# Altium schematic symbol library C-Connector.SchLib: 407 symbols (part 1 of 4)
Pins are listed as number, name and electrical type; pins without a type are passive.

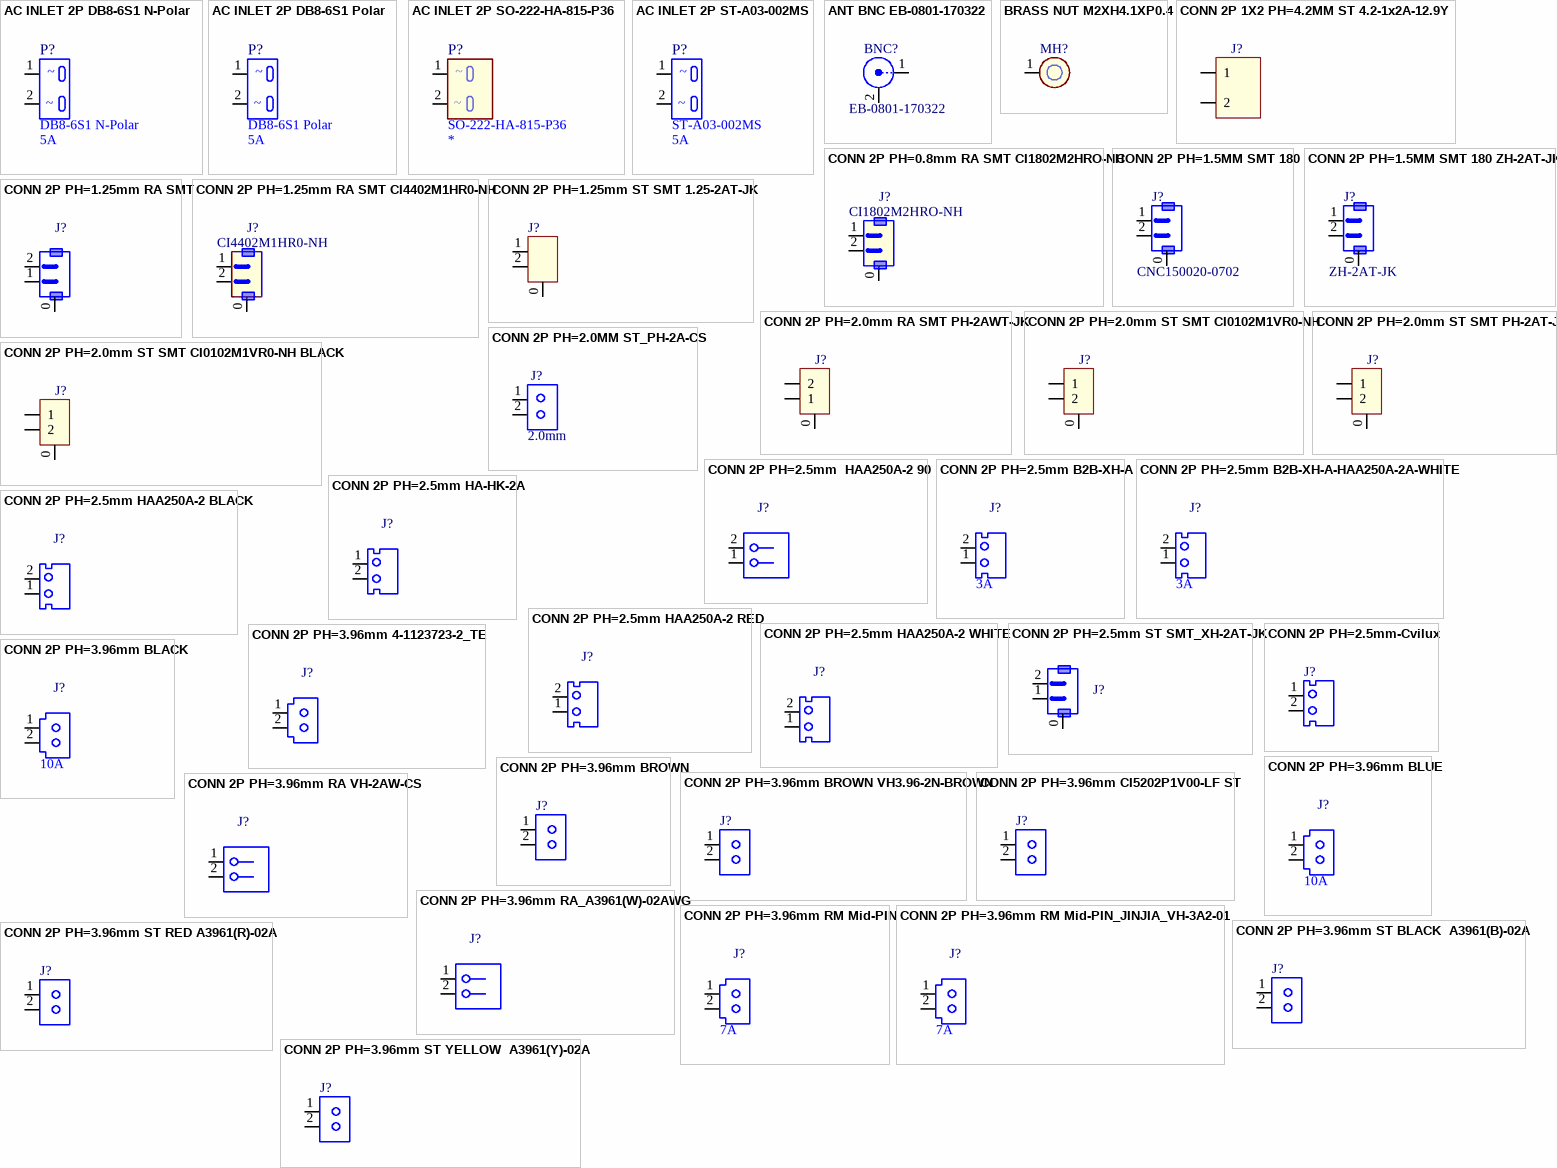
[diagram p0: symbols AC INLET 2P DB8-6S1 N-Polar to CONN 2P PH=3.96mm ST YELLOW  A3961(Y)-02A]

## AC INLET 2P DB8-6S1 N-Polar
designator P?, comment MFG Part: DB8-6S1 N-Polar  Current: 5A  (hidden comment: CJP012009-0050)
AC SOCKET 2P D2.36 2.5A 250V VDE BLACK; SAP: T690300011500; MFG: 金明浩; Vendor Name: 深圳市金明浩电子科技有限公司; Vendor Code: 10010007; DIP&SMD: DIP; Value: *; Type: Connector
footprint AC INLET 2P DB8-6S1 (AC SOCKET 2P D2.36 2.5A 250V VDE BLACK)
footprint Bat connector
footprint Motor connector
pins: 1, 2
2 alternate drawings of the same symbol
text: ~

## AC INLET 2P DB8-6S1 Polar
designator P?, comment MFG Part: DB8-6S1 Polar  Current: 5A  (hidden comment: CJP012009-0070)
AC SOCKET 2P D2.36 2.5A 250V VDE BLACK; SAP: T690300011600; MFG: 金明浩; Vendor Name: 深圳市金明浩电子科技有限公司; Vendor Code: 10010007; DIP&SMD: DIP; Value: *; Type: Connector
footprint AC INLET 2P DB8-6S1 (AC SOCKET 2P D2.36 2.5A 250V VDE BLACK)
footprint Motor&Bat connector
pins: 1, 2
2 alternate drawings of the same symbol
text: ~

## AC INLET 2P SO-222-HA-815-P36
designator P?, comment MFG Part: SO-222-HA-815-P36  (hidden comment: T691200006000)
PLUG 250V 2.5A - TECX-UNIONS K; CREATE_NAME: Nathan; DIP&SMD: DIP; SAP: T691200006000; MFG: TECX-UNIONS; Vendor Name: *; Vendor Code: *; Value: *; Type: Connector; CREATE_TIME: 08-Nov-2018; Current: *
footprint AC INLET 2P SO-222-HA-815-P36 (AC INLET SO-222-HA-815-P36)
pins: 1, 2
2 alternate drawings of the same symbol
text: ~

## AC INLET 2P ST-A03-002MS
designator P?, comment MFG Part: ST-A03-002MS  Current: 5A  (hidden comment: CJPA12002-0010)
AC IN SOCKET ST-A03-002MS; SAP: T690300012000; MFG: 金明浩; Vendor Name: 深圳市金明浩电子科技有限公司; Vendor Code: 10010007; DIP&SMD: DIP; Value: *; Type: Connector
footprint AC INLET 2P ST-A03-002MS
pins: 1, 2
2 alternate drawings of the same symbol
text: ~

## ANT BNC EB-0801-170322
designator BNC?  MFG Part: EB-0801-170322  (hidden comment: *)
BNC Connector EB-0801-170322; CREATE_NAME: Nathan; MFG: HAOYU; DIP&SMD: DIP; CREATE_TIME: 03-May-2017; Type: BNC; SAP: *; Customer Specific: N/A
footprint ANT BNC EB-0801-170322 (BNC EB-0801-170322 H23mm)
pins: 1 X, 2 Y

## BRASS NUT M2XH4.1XP0.4
designator MH?, comment T181000001310  (value not drawn)
BRASS NUT M2XH4.1XP0.4 K; CREATE_NAME: Nathan; DIP&SMD: SMD; CREATE_TIME: 02-Aug-2018; MFG: *; MFG Part: BRASS NUT; Type: Connector; SAP: T181000001310
footprint BRASS NUT M2XH4.1XP0.4
pins: 1

## CONN 2P 1X2 PH=4.2MM ST 4.2-1x2A-12.9Y
designator J?, comment T690300141300  (value not drawn)
F HEAD 1*2P P4.2 F\180 4.2-1X2A-12.9Y K; MFG: JIN JIA; CREATE_NAME: Nathan; DIP&SMD: DIP; Current: 9A; SAP: T690300141300; MFG Part: 4.2-1x2A-12.9Y; Type: Connector; CREATE_TIME: 10-May-2018
footprint CONN 2P 1X2 PH=4.2MM 4.2-1x2A-12.9Y (4.2pitch ATX Power Connector 1X2pin)
pins: 1, 2

## CONN 2P PH=0.8mm RA SMT CI1802M2HRO-NH
designator J?, comment MFG Part: CI1802M2HRO-NH  (hidden comment: T690300106500)
CONN 2PIN P0.8 F\180 CI1802M2HRO-NH L; MFG: CVILUX(瀚荃); CREATE_NAME: Nathan; DIP&SMD: SMD; Vendor Code: *; Vendor Name: *; TYPE: Connector; CREATE_TIME: 24-May-2017; SAP: T690300106500
footprint CONN 2P PH=0.8mm RA SMT CI1802M2HRO-NH (0.8mm 2PIN RIGHT ANGLE SMT TYPE HEADER)
pins: 0, 1, 2

## CONN 2P PH=1.5MM SMT 180
designator J?, comment CNC150020-0702
CONNECTOR 2PIN P=1.5mm 90'单排GOLD 1.5T-LT-2A; CREATE_NAME: Tom; SAP: T690300046800; MFG: 金科基; CURRENT: 1.5A; DIP&SMD: SMD; CREATE_TIME: 12-May-2015; MFG Part: *; Vendor Name: *; Vendor code: *; Type: *; Package: *
footprint CONN 2P PH=1.5MM SMT 180 (SMT CONNECTOR 2PIN P=1.5mm 90'单排镀锡)
pins: 0, 1, 2

## CONN 2P PH=1.5MM SMT 180 ZH-2AT-JK
designator J?, comment MFG Part: ZH-2AT-JK  (hidden comment: T690300108700)
CONNECTOR 2PIN 1.5MM SMT 90 K; CREATE_NAME: Nathan; MFG: JINJIA; CURRENT: 1.5A; DIP&SMD: SMD; CREATE_TIME: 12-Sep-2017; SAP: T690300108700; Vendor Name: *; Vendor code: *; Type: *; Package: *
footprint CONN 2P PH=1.5MM SMT 180 ZH-2AT-JK (SMT CONNECTOR 2PIN P=1.5mm 90'单排镀锡)
pins: 0, 1, 2

## CONN 2P PH=1.25mm RA SMT
designator J?, comment CNC125010-0102  (value not drawn)
CHIP CONN. 2P 1.25mm MOLEX1.25 CSHT1251WR; SAP: T690300020700; MFG: 利民丰; CREATE_NAME: Nathan; Current: 1A; DIP&SMD: SMD; Value: 1.25mm; MFG Part: CSHT1251WR; Vendor Name: *; Vendor Code: *; Type: Connector; CREATE_TIME: 22-DEC-2014
footprint CONN 2P PH=1.25mm RA SMT (GP CHIP CONNECTOR 2P PH=1.25mm H3.55mm)
pins: 0, 1, 2

## CONN 2P PH=1.25mm RA SMT CI4402M1HR0-NH
designator J?, comment MFG Part: CI4402M1HR0-NH  (hidden comment: T690300110500)
CONN. 2P 1.25MM CI4402M1HR0-NH G; MFG: CVILUX(瀚荃); CREATE_NAME: Nathan; DIP&SMD: SMD; Vendor Code: *; Vendor Name: *; TYPE: Connector; CREATE_TIME: 22-May-2017; SAP: T690300110500
footprint CONN 2P PH=1.25mm CI4402M1HR0-NH (1.25mm 2PIN RIGHT ANGLE SMT TYPE HEADER)
pins: 0, 1, 2

## CONN 2P PH=1.25mm ST SMT 1.25-2AT-JK
designator J?, comment T690300114700  (value not drawn)
CONN 2PIN P1.25 1.25-2AT-JK K; MFG: JIN JIA; CREATE_NAME: Nathan; Value: 1.25mm; DIP&SMD: SMD; SAP: T690300114700; MFG Part: 1.25-2AT-JK; Vendor Name: *; Vendor code: *; Type: Connector; Package: *; CURRENT: *; CREATE_TIME: 14-Aug-2017
footprint CONN 2P PH=1.25mm ST SMT 1.25-2AT-JK (GP CHIP CONNECTOR 2P PH=1.25mm H4.7mm)
pins: 0, 1, 2

## CONN 2P PH=2.0mm RA SMT PH-2AWT-JK
designator J?, comment T690300140400  (value not drawn)
GP CONNECTOR SMD 2PIN PITCH:2.0MM 9 K; MFG Part: PH-2AWT-JK; Value: 2.0mm; MFG: JINJIA; CREATE_NAME: Nathan; SAP: T690300140400; Vendor Name: *; Vendor Code: *; Type: Connector; Current: *; CREATE_TIME: 25-Apr-2018; DIP&SMD: SMD
footprint CONN 2P PH=2.0mm RA SMT PH-2AWT-JK (Connector 2 PIN PH=2.0mm JINJIA  PH-2AWT-JK)
pins: 0, 1, 2

## CONN 2P PH=2.0mm ST SMT CI0102M1VR0-NH
designator J?, comment CNC200011-0502  (value not drawn)
CHIP CONNECTOR 2P P:2.0MM 90 NICKEL K; MFG Part: CI0102M1VR0-NH; SAP: T690300019900; MFG: Cvilux; Value: 2.0mm; CREATE_NAME: Tom@Deftroincs; DIP&SMD: SMD; Vendor Name: *; Vendor Code: *; Tolerance: *; Type: Connector; CREATE_TIME: 22-Mar-2014
footprint CONN 2P PH=2.0mm ST SMT (CONN 2P PH=2.0mm  ST SMT)
pins: 0, 1, 2

## CONN 2P PH=2.0mm ST SMT CI0102M1VR0-NH BLACK
designator J?, comment T690300085700  (value not drawn)
CONN 2.0MM BLACK 2P SMD G; MFG Part: PH-LT-2A(BK); MFG: 金瑞康; CREATE_NAME: Tom; SAP: T690300085700; Vendor Name: *; Vendor Code: *; Value: 2.0mm; Tolerance: *; Type: Connector; CREATE_TIME: 15-Mar-2018; DIP&SMD: SMD
footprint CONN 2P PH=2.0mm ST SMT (CONN 2P PH=2.0mm  ST SMT)
pins: 0, 1, 2

## CONN 2P PH=2.0mm ST SMT PH-2AT-JK
designator J?, comment T690300109100  (value not drawn)
CONNECTOR 2P P:2.0MM 90° SMT K; MFG Part: PH-2AT-JK; MFG: JINJIA; Value: 2.0mm; CREATE_NAME: Nathan; DIP&SMD: SMD; SAP: T690300109100; Vendor Name: *; Vendor Code: *; Tolerance: *; Type: Connector; CREATE_TIME: 11-Sep-2017
footprint CONN 2P PH=2.0mm ST SMT PH-2AT-JK (CONN 2P PH=2.0mm  ST SMT)
pins: 0, 1, 2

## CONN 2P PH=2.0MM ST_PH-2A-CS
designator J?, comment value 2.0mm  (hidden comment: T690300132000)
CONN 2P P2 M\90 PH-2A-CS K; MFG: 金佳; CREATE_NAME: Nathan; DIP&SMD: DIP; SAP: T690300132000; Vendor Name: *; Vendor Code: *; CREATE_TIME: 07-Feb-2018; MFG Part: PH-2A-CS; Type: Connector; Current: *
footprint CONN 2P PH=2.0MM ST_PH-2A-CS (PH WAFER 2P PH=2.0mm H6.2mm)
pins: 1, 2

## CONN 2P PH=2.5mm  HAA250A-2 90
designator J?, comment CCN250020-0502  (value not drawn)
CONNECTOR 2P P=2.5mm White 90' No Tail; MFG Part: HAA250A-2AWD; Value: 5.75; SAP: T690300003100; MFG: 金基科; CREATE_NAME: Evan; DIP&SMD: DIP; Vendor Name: *; Vendor Code: *; Type: Connector; CREATE_TIME: 16-Jul-2014
footprint CONN 2P PH=2.5mm  HAA250A-2 90
pins: 1, 2

## CONN 2P PH=2.5mm B2B-XH-A
designator J?, comment Current: 3A  (hidden comment: CCN250000-0102)
GP CONNECTOR B2B-XH-A 2 PIN G; MFG Part: HAA250A-2A-WHITE; Value: 2.5mm; SAP: T690300041200; MFG: 金瑞康; Vendor Name: 亿源电子有限公司; Vendor Code: 10009989; DIP&SMD: DIP; Type: Connector
footprint CONN 2P PH=2.5mm B2B-XH-A (CONN 2P PH=2.5mm B2B-XH-A H7mm)
pins: 1, 2

## CONN 2P PH=2.5mm B2B-XH-A-HAA250A-2A-WHITE
designator J?, comment Current: 3A  (hidden comment: CCN250000-0102)
GP CONNECTOR B2B-XH-A 2 PIN G; MFG Part: HAA250A-2A-WHITE; Value: 2.5mm; SAP: T690300072400; MFG: 金瑞康; CREATE_NAME: Tom; DIP&SMD: DIP; Vendor Name: *; Vendor Code: *; Type: Connector; CREATE_TIME: 29-Feb-2016
footprint CONN 2P PH=2.5mm B2B-XH-A (CONN 2P PH=2.5mm B2B-XH-A H7mm)
pins: 1, 2

## CONN 2P PH=2.5mm HA-HK-2A
designator J?, comment CCN250001-0102  (value not drawn)
CONNECTOR HA2.5 2PIN WHITE G; MFG Part: HA-HK-2A; Value: 2.5mm; SAP: T690300024000; MFG: 建威; Vendor Name: 深圳市利民丰电子有限公司; Vendor Code: 10020373; Current: 3A; DIP&SMD: DIP; Type: Connector
footprint CONN 2P PH=2.5mm HA-HK-2A (CONN 2P PH=2.5mm HA-HK-2A H7.2mm)
pins: 1, 2

## CONN 2P PH=2.5mm HAA250A-2 BLACK
designator J?, comment T690300125300  (value not drawn)
CONNECTOR HA2.5 2PIN BLACK K; MFG Part: HAA250A-2 BLACK; Value: 2.5mm; MFG: 金瑞康; CREATE_NAME: Nathan; Current: 3A; DIP&SMD: DIP; SAP: T690300125300; Vendor Name: *; Vendor Code: *; Type: Connector; CREATE_TIME: 24-Nov-2017
footprint CONN 2P PH=2.5mm HAA250A-2 WHITE
pins: 1, 2

## CONN 2P PH=2.5mm HAA250A-2 RED
designator J?, comment CCN250002-0102  (value not drawn)
CONNECTOR HA2.5 2PIN RED G; MFG Part: HAA250A-2 RED; Value: 2.5mm; SAP: T690300024700; MFG: 金瑞康; CREATE_NAME: Nathan; Current: 3A; DIP&SMD: DIP; Vendor Name: *; Vendor Code: *; Type: Connector; CREATE_TIME: 15-June-2016
footprint CONN 2P PH=2.5mm HAA250A-2 RED
pins: 1, 2

## CONN 2P PH=2.5mm HAA250A-2 WHITE
designator J?, comment T690300048100  (value not drawn)
CONNECTOR 2PIN 2.5 WHITE G; MFG Part: HAA250A-2; Value: 2.5mm; MFG: 金瑞康; CREATE_NAME: Nathan; Current: 3A; DIP&SMD: DIP; SAP: T690300048100; Vendor Name: *; Vendor Code: *; Type: Connector; CREATE_TIME: 24-Nov-2017
footprint CONN 2P PH=2.5mm HAA250A-2 WHITE
pins: 1, 2

## CONN 2P PH=2.5mm ST SMT_XH-2AT-JK
designator J?, comment T690300165300  (value not drawn)
CONNECTOR 2PIN P:2.54 90 H:7.8 K; MFG Part: XH-2AT-JK; Value: 2.5mm; MFG: 金佳; CREATE_NAME: Nathan; DIP&SMD: SMD; SAP: T690300165300; Vendor Name: *; Vendor Code: *; Type: Connector; CREATE_TIME: 12-Apr-2019; Current: *; Customer Specific: N/A
footprint CONN 2P PH=2.5MM SMT ST XH-2AT-JK (CONN 2P PH=2.5MM SMT XH-2AT-JK)
pins: 0, 1, 2

## CONN 2P PH=2.5mm-Cvilux
designator J?, comment T690300058400  (value not drawn)
WTB CONN. 2.5MM 2PIN CI2202P1VK0-NH CV G; MFG: CVILUX; CREATE_NAME: Tom; DIP&SMD: DIP; Value: 2.5mm; SAP: T690300058400; MFG Part: CI2202P1VK0-NH; Vendor Name: *; Vendor Code: *; Type: Connector; CREATE_TIME: 25-Feb-2016; Current: *
footprint CONN 2P PH=2.5mm B2B-XH-A (CONN 2P PH=2.5mm B2B-XH-A H7mm)
pins: 1, 2

## CONN 2P PH=3.96mm 4-1123723-2_TE
designator J?, comment T690300165500  (value not drawn)
CONN 2P P3.96 M\180 4-1123723-2 L; Value: 3.96mm; DIP&SMD: DIP; CREATE_NAME: Nathan; SAP: T690300165500; MFG: *; MFG Part: *; Vendor Name: *; Vendor Code: *; Type: Connector; CREATE_TIME: 15-APR-2019; Current: *
footprint CONN 2P PH=3.96mm_4-1123723-2_TE (CONN 2P P3.96 M\180)
pins: 1, 2

## CONN 2P PH=3.96mm BLACK
designator J?, comment Current: 10A  (hidden comment: CCN396030-0102)
CONNECTOR 2PIN P:3.96 LEOCO 3951 BLACK G; Value: 3.96mm; SAP: T690300025000; MFG: JIN RUI KANG; DIP&SMD: DIP; MFG Part: *; Vendor Name: *; Vendor Code: *; Type: Connector
footprint CONN 2P PH=3.96mm BLACK (CONN 2P PH=3.96mm  BLACK H10.9mm)
pins: 1, 2

## CONN 2P PH=3.96mm BLUE
designator J?, comment Current: 10A  (hidden comment: CCN396040-0102)
CONNECTOR 2PIN P:3.96 LEOCO 3951 BLUE G; Value: 3.96mm; SAP: T690300025100; MFG: JIN RUI KANG; DIP&SMD: DIP; MFG Part: *; Vendor Name: *; Vendor Code: *; Type: Connector
footprint CONN 2P PH=3.96mm BLUE (CONN 2P PH=3.96mm  BLUE H10.9mm)
pins: 1, 2

## CONN 2P PH=3.96mm BROWN
designator J?, comment T690300103200  (value not drawn)
CONNECTOR 2 PIN LEOCO 3951 BROWN K; MFG Part: HAA396A-2Y-BRO; MFG: JINRUIKANG; CREATE_NAME: Tom; DIP&SMD: DIP; SAP: T690300103200; Vendor Name: *; Vendor Code: *; Type: Connector; CREATE_TIME: 04-May-2018
footprint CONN 2P PH=3.96mm BROWN (CONN 2P PH=3.96mm  H10.9mm)
pins: 1, 2

## CONN 2P PH=3.96mm BROWN VH3.96-2N-BROWN
designator J?, comment T690300158300  (value not drawn)
CONN 2PIN P3.96 M\180 VH3.96-2N-BROWN K; MFG: 利民豐; CREATE_NAME: Nathan; DIP&SMD: DIP; SAP: T690300158300; Vendor Name: *; Vendor Code: *; Type: Connector; CREATE_TIME: 12-Dec-2018; MFG Part: VH3.96-2N-BROWN
footprint CONN 2P PH=3.96mm BROWN VH3.96-2N-BROWN (CONN 2P PH=3.96mm  BROWN H10.9mm)
pins: 1, 2

## CONN 2P PH=3.96mm CI5202P1V00-LF ST
designator J?, comment T690300066900  (value not drawn)
2P 3.96MM DIP CI5202P1V00-LF K; MFG: 瀚荃; CREATE_NAME: Nathan; SAP: T690300066900; Vendor Name: *; Vendor Code: *; Type: Connector; CREATE_TIME: 03-Mar-2017; MFG Part: CI5202P1V00-LF; DIP&SMD: DIP
footprint CONN 2P PH=3.96MM CI5202P1V00-LF ST
pins: 1, 2

## CONN 2P PH=3.96mm RA VH-2AW-CS
designator J?, comment T690300164200  (value not drawn)
CONN 2P P3.96 M90 WHITE K; MFG Part: VH-2AW-CS; Value: 3.96mm; MFG: JIN JIA; CREATE_NAME: Cherry; DIP&SMD: DIP; SAP: T690300164200; CREATE_TIME: 2019-04-09; Type: Connector; Current: *
footprint CONN 2P PH=3.96mm_VH-2AW-CS (VH-2AW-CS)
pins: 1, 2

## CONN 2P PH=3.96mm RA_A3961(W)-02AWG
designator J?, comment T690300145800  (value not drawn)
CONN 2P P3.96 M\90 A3961(W)-02AWG (W) K; Value: 3.96mm; MFG: JIATAICHEN; CREATE_NAME: Tom; DIP&SMD: DIP; SAP: T690300145800; MFG Part: A3961(W)-02AWG; CREATE_TIME: 02-Jul-2018; Type: Connector; Current: *
footprint CONN 2P PH=3.96mm RA_A3961(W)-02AWG (A3961(W)-02AWG)
pins: 1, 2

## CONN 2P PH=3.96mm RM Mid-PIN
designator J?, comment Current: 7A  (hidden comment: CCN396021-0102)
CONNECTOR 2 PIN P=3.96 WHITE REMOVED PIN; Value: 3.96mm; SAP: T690300030800; Vendor Name: 亿源电子有限公司; Vendor Code: 10009989; DIP&SMD: DIP; MFG: *; MFG Part: *; Type: Connector
footprint CONN 2P PH=3.96mm RM Mid-PIN (CONN 3P PH=3.96mm  REMOVE Mid-PIN and to be 2P H10.9mm)
pins: 1, 2

## CONN 2P PH=3.96mm RM Mid-PIN_JINJIA_VH-3A2-01
designator J?, comment Current: 7A  (hidden comment: T690300109500)
CONNECTOR 2PIN 3.96MM DIP 180 K; CREATE_NAME: Nathan; Value: 3.96mm; SAP: T690300109500; MFG: *; MFG Part: *; Vendor Name: *; Vendor Code: *; Type: Connector; CREATE_TIME: 12-Sep-2017; DIP&SMD: DIP
footprint CONN 2P PH=3.96mm RM Mid-PIN_JINJIA_VH-3A2-01 (CONN 3P PH=3.96mm  REMOVE Mid-PIN and to be 2P H10.9mm)
pins: 1, 2

## CONN 2P PH=3.96mm ST BLACK  A3961(B)-02A
designator J?, comment T690300126400  (value not drawn)
CONN 2P P3.96 M\90 A3961(B)-02A (B) L; MFG: 佳泰臣; CREATE_NAME: Nathan; DIP&SMD: DIP; SAP: T690300126400; Vendor Name: *; Vendor Code: *; Type: Connector; CREATE_TIME: 28-Nov-2017; MFG Part: A3961(B)-02A
footprint CONN 2P PH=3.96MM BLACK A3961(B)-02A (CONN 2P P3.96 M\90 BLACK)
pins: 1, 2

## CONN 2P PH=3.96mm ST RED A3961(R)-02A
designator J?, comment T690300126600  (value not drawn)
CONN 2P P3.96 M\90 A3961(R)-02A (R) L; MFG: 佳泰臣; CREATE_NAME: Nathan; DIP&SMD: DIP; SAP: T690300126600; Vendor Name: *; Vendor Code: *; Type: Connector; CREATE_TIME: 28-Nov-2017; MFG Part: A3961(R)-02A
footprint CONN 2P PH=3.96MM RED A3961(R)-02A (CONN 2P P3.96 M\90 RED)
pins: 1, 2

## CONN 2P PH=3.96mm ST YELLOW  A3961(Y)-02A
designator J?, comment T690300126500  (value not drawn)
CONN 2P P3.96 M\90 A3961(Y)-02A (Y) L; MFG: 佳泰臣; CREATE_NAME: Nathan; DIP&SMD: DIP; SAP: T690300126500; Vendor Name: *; Vendor Code: *; Type: Connector; CREATE_TIME: 28-Nov-2017; MFG Part: A3961(Y)-02A
footprint CONN 2P PH=3.96MM YELLOW A3961(Y)-02A (CONN 2P P3.96 M\90 YELLOW)
pins: 1, 2

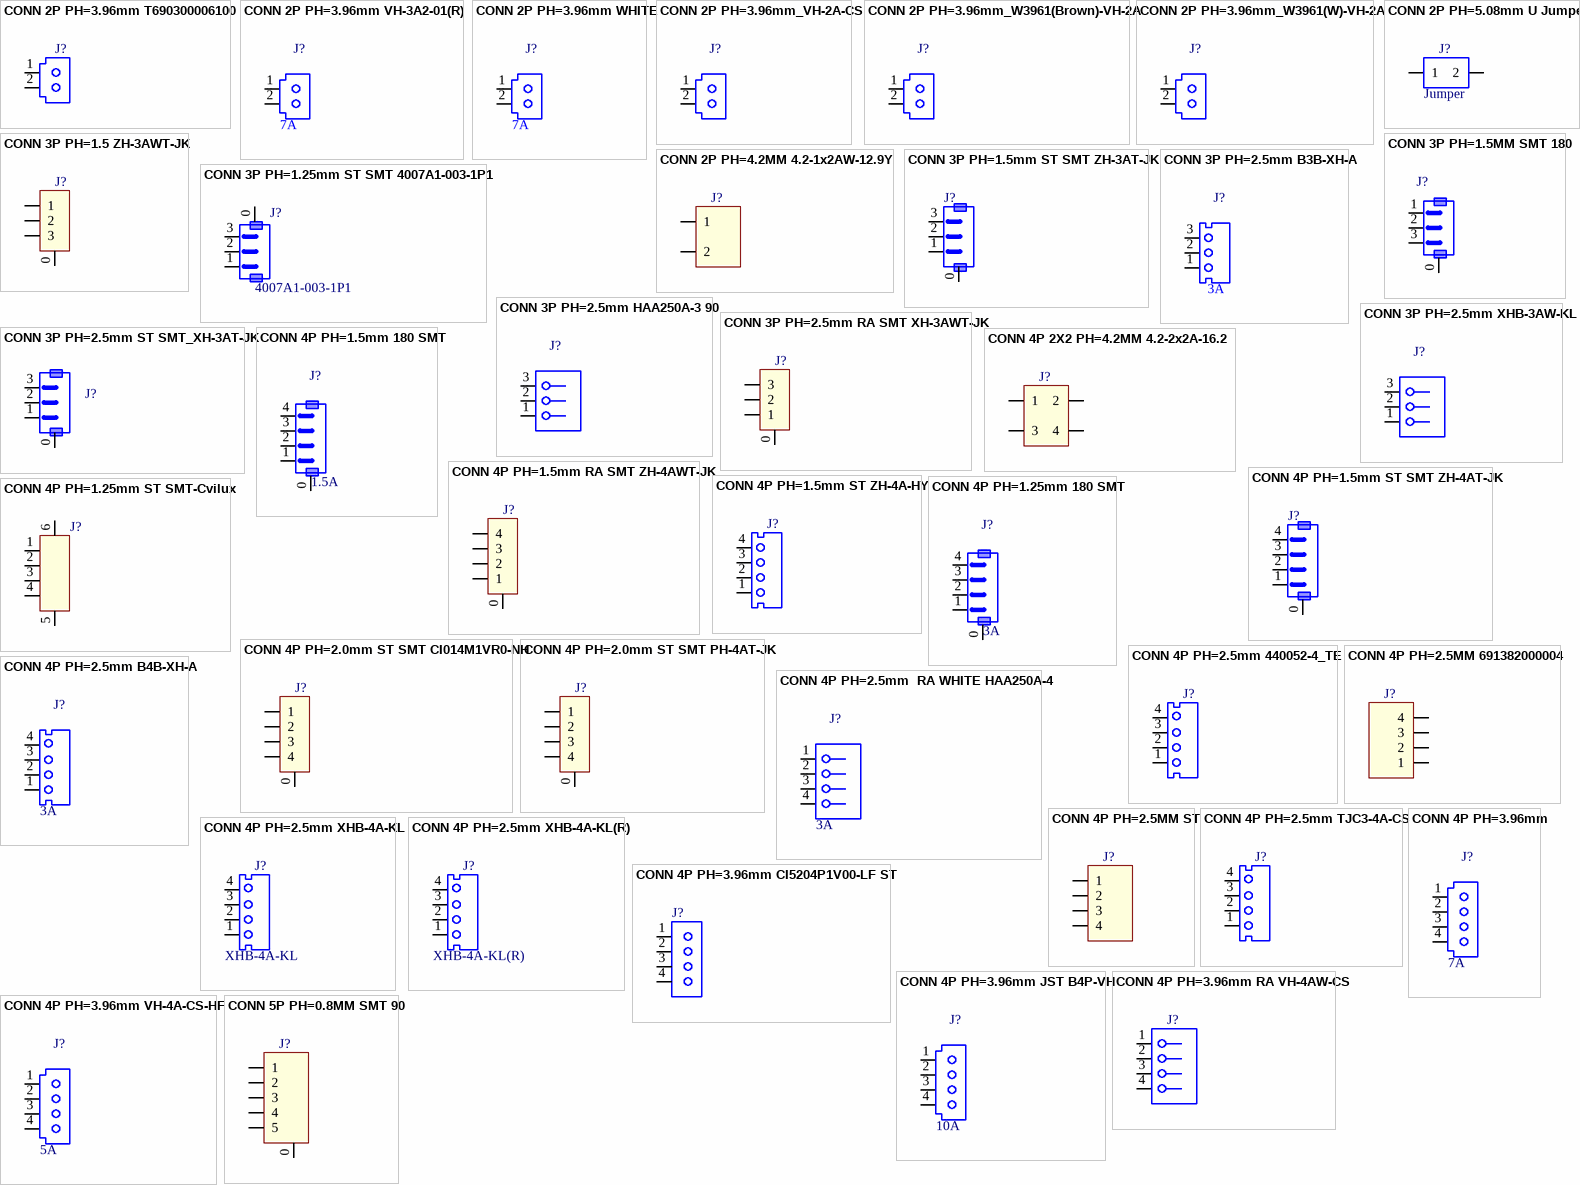
[diagram p1: symbols CONN 2P PH=3.96mm T690300006100 to CONN 5P PH=0.8MM SMT 90]

## CONN 2P PH=3.96mm T690300006100
designator J?, comment T690300006100  (value not drawn)
CONNECTOR 2 PIN PITCH:3.96MM G; MFG Part: 1-1123723; Value: 3.96mm; MFG: TE(TYCO); Vendor Code: **; CREATE_NAME: Tom; DIP&SMD: DIP; SAP: T690300006100; Vendor Name: *; Type: Connector; Current: *; CREATE_TIME: 04-Mar-2016
footprint CONN 2P PH=3.96mm (CONN 2P PH=3.96mm  H10.9mm)
pins: 1, 2

## CONN 2P PH=3.96mm VH-3A2-01(R)
designator J?, comment Current: 7A  (hidden comment: T690300143700)
CONNECTOR 2 PIN P:7.92 VDE\UL K; MFG Part: VH-3A2-01(R); Value: 3.96mm; MFG: JINJIA; CREATE_NAME: Tom; DIP&SMD: DIP; SAP: T690300143700; CREATE_TIME: 06-Jun-2018; Type: Connector
footprint CONN 2P PH=3.96mm RED RM Mid-PIN (CONN 3P PH=3.96mm  REMOVE Mid-PIN and to be 2P H10.9mm)
pins: 1, 2

## CONN 2P PH=3.96mm WHITE
designator J?, comment Current: 7A  (hidden comment: CCN396020-0102)
GP CONNECTOR 2 PIN LEOCO 3951 WHITE; Value: 3.96mm; SAP: T690300030300; Vendor Name: 亿源电子有限公司; Vendor Code: 10009989; DIP&SMD: DIP; MFG: *; MFG Part: *; Type: Connector
footprint CONN 2P PH=3.96mm (CONN 2P PH=3.96mm  H10.9mm)
pins: 1, 2

## CONN 2P PH=3.96mm_VH-2A-CS
designator J?, comment T690300152100  (value not drawn)
2PIN DIP PH3.96MM K; MFG Part: VH-2A-CS; Value: 3.96mm; MFG: JIN JIA; CREATE_NAME: Nathan; SAP: T690300152100; CREATE_TIME: 01-Nov-2018; Type: Connector; DIP&SMD: DIP; Current: *
footprint CONN 2P PH=3.96mm_VH-2A-CS (VH-2A-CS)
pins: 1, 2

## CONN 2P PH=3.96mm_W3961(Brown)-VH-2A
designator J?, comment T690300146400  (value not drawn)
CONN 2P P3.96 M\180 W3961(BROWN)-VH-2A K; Value: 3.96mm; MFG: JIATAICHEN; CREATE_NAME: Nathan; DIP&SMD: DIP; SAP: T690300146400; MFG Part: W3961(Brown)-VH-2A; CREATE_TIME: 09-Jul-2018; Type: Connector; Current: *
footprint CONN 2P PH=3.96mm_W3961(Brown)-VH-2A (W3961(Brown)-VH-2A)
pins: 1, 2

## CONN 2P PH=3.96mm_W3961(W)-VH-2A
designator J?, comment T690300145600  (value not drawn)
CONN 2P P3.96 M\180 W3961(W)-VH-2A (W) K; Value: 3.96mm; MFG: JIATAICHEN; CREATE_NAME: Tom; DIP&SMD: DIP; SAP: T690300145600; MFG Part: W3961(W)-VH-2A; CREATE_TIME: 02-Jul-2018; Type: Connector; Current: *
footprint CONN 2P PH=3.96mm_W3961(W)-VH-2A (W3961(W)-VH-2A)
pins: 1, 2

## CONN 2P PH=4.2MM 4.2-1x2AW-12.9Y
designator J?, comment T690300132300  (value not drawn)
F HEAD 1*2P P4.2 F\90 4.2-1X2AW-12.9Y K; MFG: 金佳; CREATE_NAME: Nathan; DIP&SMD: DIP; Current: 9A; SAP: T690300132300; MFG Part: 4.2-1x2AW-12.9Y; Type: Connector; CREATE_TIME: 07-Feb-2018
footprint CONN 2P PH=4.2MM 4.2-1x2AW-12.9Y (4.2pitch ATX Power Connector 1X2pin)
pins: 1, 2

## CONN 2P PH=5.08mm U Jumper
designator J?, comment Type: Jumper  (hidden comment: T690300143600)
CONNECTOR JUMPER 2PIN P=5.08 DIP K; MFG Part: 1225-1103XNXXU2PINX01; Value: 5.08mm; MFG: 金瑞康; CREATE_NAME: Nathan; Current: 3A; SAP: T690300143600; Vendor Name: *; Vendor Code: *; DIP&SMD: DIP; CREATE_TIME: 05-June-2018
footprint CONN 2P PH=5.08mm U Jumper (U Jumper 5.08mm AP214-3 H8.4mm)
pins: 1, 2

## CONN 3P PH=1.5 ZH-3AWT-JK
designator J?, comment T690300097100  (value not drawn)
SMT CONNECTOR 3 PIN PITCH:1.5MM K; MFG Part: ZH-3AWT-JK; MFG: 金佳; Value: 1.5mm; CREATE_NAME: Tom; DIP&SMD: DIP; SAP: T690300097100; Vendor Name: *; Vendor Code: *; Tolerance: *; Type: Connector; CREATE_TIME: 22-Dec-2016
footprint CONN 3P PH=1.5 ZH-3AWT-JK
pins: 0, 1, 2, 3

## CONN 3P PH=1.5MM SMT 180
designator J?, comment CNC150010-0703  (value not drawn)
CNC150010-0703  SMT CONNECTOR 3PIN P=1.5mm 90'单排镀锡; CREATE_NAME: TOM@Deftronics; SAP: T690300018300; MFG: 金科基; CURRENT: 1.5A; DIP&SMD: SMD; CREATE_TIME: 20-Nov-2013; MFG Part: *; Vendor Name: *; Vendor code: *; Type: *; Package: *
footprint CONN 3P PH=1.5MM SMT 180 (CNC150010-0703  SMT CONNECTOR 3PIN P=1.5mm 90'单排镀锡)
pins: 0, 1, 2, 3

## CONN 3P PH=1.5mm ST SMT ZH-3AT-JK
designator J?, comment T690300163700  (value not drawn)
CONNECTOR 3PIN 1.5MM SMT 90 K; MFG Part: ZH-3AT-JK; MFG: 金佳; CREATE_NAME: Nathan; DIP&SMD: SMD; Value: 1.5mm; SAP: T690300163700; Vendor Name: *; Vendor Code: *; Type: Connector; CREATE_TIME: 27-Mar-2019; Current: *
footprint CONN 3P PH=1.5mm ST SMT ZH-3AT-JK (GP CHIP CONNECTOR 3P PH=1.5mm H5mm)
pins: 0, 1, 2, 3

## CONN 3P PH=1.25mm ST SMT 4007A1-003-1P1
designator J?, comment MFG Part: 4007A1-003-1P1  (hidden comment: T690300107900)
CHIP CONNECTOR 3PIN P:1.25MM 90 G; Value: 1.25mm; MFG: 金瑞康; CREATE_NAME: Nathan; Current: 1A; Voltage: 50V; DIP&SMD: SMD; SAP: T690300107900; Vendor Name: *; Vendor Code: *; Type: Connector; CREATE_TIME: 25-APR-2017
footprint CONN 3P PH=1.25mm ST SMT 4007A1-003-1P1 (GP CHIP CONNECTOR 3P PH=1.25mm H4.78mm)
pins: 0, 1, 2, 3

## CONN 3P PH=2.5mm B3B-XH-A
designator J?, comment Current: 3A  (hidden comment: CCN250000-0103)
GP CONNECTOR B3B-XH-A 3 PIN; Value: 2.5mm; SAP: T690300028900; Vendor Name: 亿源电子有限公司; Vendor Code: 10009989; DIP&SMD: DIP; MFG: *; MFG Part: *; Type: Connector
footprint CONN 3P PH=2.5mm B3B-XH-A (CONN 3P PH=2.5mm B3B-XH-A H7mm)
pins: 1, 2, 3

## CONN 3P PH=2.5mm HAA250A-3 90
designator J?, comment CCN250000-0503  (value not drawn)
CONNECTOR 3PIN P=2.5 White 90'; SAP: T690300023700; MFG: 金科基; CREATE_NAME: TOM@Deftronics; DIP&SMD: DIP; Vendor Name: *; Vendor Code: *; Type: Connector; CREATE_TIME: 16-Apr-2014; MFG Part: *
footprint CONN 3P PH=2.5mm HAA250A-3 90 (CONNECTOR 3PIN P=2.5 White 90')
pins: 1, 2, 3

## CONN 3P PH=2.5mm RA SMT XH-3AWT-JK
designator J?, comment T690300149000  (value not drawn)
3PIN PH2.5 SMT 180 K; MFG Part: XH-3AWT-JK; Value: 2.5mm; MFG: JINJIA; CREATE_NAME: Nathan; DIP&SMD: SMD; SAP: T690300149000; Vendor Name: *; Vendor Code: *; Type: Connector; Current: *; CREATE_TIME: 01-Aug-2018
footprint CONN 3P PH=2.5mm RA SMT XH-3AWT-JK (Connector 3PIN PH=2.5mm JINJIA  XH-3AWT-JK)
pins: 0, 1, 2, 3

## CONN 3P PH=2.5mm ST SMT_XH-3AT-JK
designator J?
SMD 3PIN 2.5MM 180; MFG Part: XH-3AT-JK; MFG: 金佳; CREATE_NAME: Nathan; Value: 2.5mm; SAP: *; Vendor Name: *; Vendor Code: *; Type: Connector; CREATE_TIME: 30-Aug-2018; Current: *; DIP&SMD: SMD; Customer Specific: N/A
footprint CONN 3P PH=2.5MM SMT ST XH-3AT-JK (CONN 3P PH=2.5MM SMT XH-3AT-JK)
pins: 0, 1, 2, 3

## CONN 3P PH=2.5mm XHB-3AW-KL
designator J?, comment T690300112600  (value not drawn)
CONNECTOR 3PIN P:2.5 WHITE 90 NORMAL K; MFG Part: XHB-3AW-KL; MFG: JIN JIA; CREATE_NAME: Nathan; DIP&SMD: DIP; SAP: T690300112600; Vendor Name: *; Vendor Code: *; Type: Connector; CREATE_TIME: 18-July-2017
footprint CONN 3P PH=2.5mm XHB-3AW-KL (CONNECTOR 3PIN P=2.5 White 90')
pins: 1, 2, 3

## CONN 4P 2X2 PH=4.2MM 4.2-2x2A-16.2
designator J?, comment T690300132400  (value not drawn)
F HEAD 2*2P P4.2 F\90 4.2-2X2A-16.2 K; MFG: 金佳; CREATE_NAME: Nathan; DIP&SMD: DIP; Current: 7A; Voltage: 250V; SAP: T690300132400; MFG Part: 4.2-2x2A-16.2; Type: Connector; CREATE_TIME: 07-Feb-2018
footprint CONN 4P 2X2 PH=4.2MM 4.2-2x2A-16.2 (4.2pitch ATX Power Connector 2X2pin)
pins: 1, 2, 3, 4

## CONN 4P PH=1.5mm 180 SMT
designator J?, comment Current: 1.5A  (hidden comment: CNC150010-0704)
SMT CONNECTOR 4PIN P=1.5mm 90'单排镀金; Value: 1.5mm; SAP: T690300018400; MFG: 金科基; CREATE_NAME: GordonL@Deftronics; DIP&SMD: SMD; MFG Part: *; Vendor Name: *; Vendor Code: *; Type: Connector; CREATE_TIME: 28-MAR-2013
footprint CONN 4P PH=1.5mm 180 SMT (GP CHIP CONNECTOR 4P PH=1.5mm H5mm)
pins: 0, 1, 2, 3, 4

## CONN 4P PH=1.5mm RA SMT ZH-4AWT-JK
designator J?, comment T690300117300  (value not drawn)
CONNECTOR 4 PIN PH1.5 ZH-4AWT-JK K; Value: 1.5mm; MFG: JINJIA; CREATE_NAME: Nathan; DIP&SMD: SMD; SAP: T690300117300; MFG Part: ZH-4AWT-JK; Vendor Name: *; Vendor Code: *; Type: Connector; Current: *; CREATE_TIME: 29-Aug-2017
footprint CONN 4P PH=1.5mm RA SMT ZH-4AWT-JK (Connector 4 PIN PH=1.5mm JINJIA  ZH-4AWT-JK)
pins: 0, 1, 2, 3, 4

## CONN 4P PH=1.5mm ST SMT ZH-4AT-JK
designator J?, comment T690300155600  (value not drawn)
CHIP CONNECTOR 4PIN P:1.5MM 90; MFG Part: ZH-4AT-JK; Value: 1.5mm; MFG: 金佳; CREATE_NAME: Nathan; DIP&SMD: SMD; SAP: T690300155600; Vendor Name: *; Vendor Code: *; Type: Connector; CREATE_TIME: 21-Nov-2018; Current: *
footprint CONN 4P PH=1.5mm ST SMT ZH-4AT-JK (GP CHIP CONNECTOR 5P PH=1.5mm H5mm)
pins: 0, 1, 2, 3, 4

## CONN 4P PH=1.5mm ST ZH-4A-HY
designator J?, comment T690300117200  (value not drawn)
CONNECTOR 4 PIN PH1.5 180 ZH-4A-HY K; Value: 1.5mm; MFG: JINJIA; CREATE_NAME: Nathan; DIP&SMD: DIP; SAP: T690300117200; MFG Part: ZH-4A-HY; Vendor Name: *; Vendor Code: *; Type: Connector; Current: *; CREATE_TIME: 29-Aug-2017
footprint CONN 4P PH=1.5mm ST ZH-4A-HY (CONN ZH 4P PH=1.5mm 180 H4.5mm)
pins: 1, 2, 3, 4

## CONN 4P PH=1.25mm 180 SMT
designator J?, comment Current: 3A  (hidden comment: CNC125010-0504)
CHIP  CONNECTOR 4P P=1.25mm 90' 单排镀镍; Value: 1.25mm; SAP: T690300017500; MFG: 利民丰; CREATE_NAME: GordonL@Deftronics; DIP&SMD: SMD; MFG Part: *; Vendor Name: *; Vendor Code: *; Type: Connector; CREATE_TIME: 01-APR-2013
footprint CONN 4P PH=1.25mm 180 SMT (GP CHIP CONNECTOR 4P PH=1.25mm H5.4mm)
pins: 0, 1, 2, 3, 4

## CONN 4P PH=1.25mm ST SMT-Cvilux
designator J?, comment T690300062400  (value not drawn)
CON\CI4404M_1.25MM_VL G; MFG Part: CI4404M1VR0-NH; MFG: Cvilux; Value: 1.25mm; CREATE_NAME: Tom; DIP&SMD: SMD; SAP: T690300062400; Vendor Name: *; Vendor Code: *; Tolerance: *; Type: Connector; CREATE_TIME: 25-Feb-2016
footprint CONN 4P PH=1.25mm ST SMT-Cvilux
pins: 1, 2, 3, 4, 5, 6

## CONN 4P PH=2.0mm ST SMT CI014M1VR0-NH
designator J?, comment T690300076200  (value not drawn)
CONNECTOR 4PIN P:2.0MM 90 CVILUX G; MFG Part: CI014M1VR0-NH; Value: 2.0mm; CREATE_NAME: Tom; DIP&SMD: SMD; SAP: T690300076200; Vendor Name: *; Vendor Code: *; MFG: Cvilux; Tolerance: *; Type: Connector; CREATE_TIME: 21-Apr-2016
footprint CONN 4P PH=2.0mm ST SMT
pins: 0, 1, 2, 3, 4

## CONN 4P PH=2.0mm ST SMT PH-4AT-JK
designator J?, comment T690300116500  (value not drawn)
CONN 4PIN P:2.0MM 90 SMT PH-4AT-JK K; MFG: JINJIA; Value: 2.0mm; CREATE_NAME: Nathan; DIP&SMD: SMD; SAP: T690300116500; Vendor Name: *; Vendor Code: *; MFG Part: PH-4AT-JK; Tolerance: *; Type: Connector; CREATE_TIME: 01-Apr-2019
footprint CONN 4P PH=2.0mm ST SMT PH-4AT-JK (CONN 4P PH=2.0mm  ST SMT)
pins: 0, 1, 2, 3, 4

## CONN 4P PH=2.5mm 440052-4_TE
designator J?, comment T690300164400  (value not drawn)
GP CONNECTOR B4B-XH-A 4 PIN; MFG Part: 440052-4; Value: 2.5mm; MFG: TE; DIP&SMD: DIP; CREATE_NAME: Nathan; SAP: T690300164400; Vendor Name: *; Vendor Code: *; Type: Connector; CREATE_TIME: 10-APR-2019; Current: *
footprint CONN 4P PH=2.5mm 440052-4
pins: 1, 2, 3, 4

## CONN 4P PH=2.5MM 691382000004
designator J?, comment T690300100100  (value not drawn)
CONNECTOR M\180 12\8.1\13.6MM 4PIN L; MFG Part: 691382000004; MFG: WE; CREATE_NAME: Tom; Value: 2.5mm; Current: 0.5A; DIP&SMD: DIP; Vendor Code: *; Vendor Name: *; TYPE: Connector; CREATE_TIME: 23-Dec-2016; SAP: T690300100100
footprint CONN 4P PH=2.5MM 691382000004
pins: 1, 2, 3, 4

## CONN 4P PH=2.5mm  RA WHITE HAA250A-4
designator J?, comment Current: 3A  (hidden comment: CCN250010-0504)
CONN. 4P P=2.5mm 90' HAA250A-4 RA WHITE; MFG Part: HAA250A-4 WHITE; Value: 2.5mm; SAP: T690300038000; MFG: 金科基; DIP&SMD: DIP; Vendor Name: *; Vendor Code: *; Type: Connector
footprint CONN 4P PH=2.5mm RA WHITE HAA250A-4 (CONN 4P PH=2.5mm HAA250A-4 H5.8mm WHITE Color)
pins: 1, 2, 3, 4

## CONN 4P PH=2.5mm B4B-XH-A
designator J?, comment Current: 3A  (hidden comment: CCN250000-0104)
GP CONNECTOR B4B-XH-A 4 PIN; Value: 2.5mm; SAP: T690300029000; Vendor Name: 亿源电子有限公司; Vendor Code: 10009989; DIP&SMD: DIP; MFG: *; MFG Part: *; Type: Connector
footprint CONN 4P PH=2.5mm B4B-XH-A (CONN 4P PH=2.5mm B4B-XH-A H7mm)
pins: 1, 2, 3, 4

## CONN 4P PH=2.5MM ST
designator J?, comment T690300097200  (value not drawn)
CONNECTOR TJC3-4A-CS 4 PIN G; Value: 2.5mm; MFG: 金佳电子; CREATE_NAME: Tom; DIP&SMD: DIP; SAP: T690300097200; MFG Part: TJC3-4A-CS; Vendor Name: *; Vendor Code: *; Type: Connector; Current: *; CREATE_TIME: 27-Dec-2016
footprint CONN 4P PH=2.5MM ST
pins: 1, 2, 3, 4

## CONN 4P PH=2.5mm TJC3-4A-CS
designator J?, comment T690300097200  (value not drawn)
CONNECTOR TJC3-4A-CS 4 PIN G; Value: 2.5mm; MFG: JIN JIA; CREATE_NAME: Nathan; DIP&SMD: DIP; SAP: T690300097200; MFG Part: TJC3-4A-CS; Vendor Name: *; Vendor Code: *; Type: Connector; Current: *; CREATE_TIME: 18-July-2017
footprint CONN 4P PH=2.5mm B4B-XH-A (CONN 4P PH=2.5mm B4B-XH-A H7mm)
pins: 1, 2, 3, 4

## CONN 4P PH=2.5mm XHB-4A-KL
designator J?, comment MFG Part: XHB-4A-KL  (hidden comment: T690300127400)
CONNECTOR 4PIN P 2.54MM 180° K; Value: 2.5mm; MFG: 金佳; CREATE_NAME: Nathan; DIP&SMD: DIP; SAP: T690300127400; Vendor Name: *; Vendor Code: *; Type: Connector; CREATE_TIME: 14-DEC-2017; Current: *
footprint CONN 4P PH=2.5mm XHB-4A-KL (CONN 4P PH=2.5mm XHB-4A-KL H7.2mm)
pins: 1, 2, 3, 4

## CONN 4P PH=2.5mm XHB-4A-KL(R)
designator J?, comment MFG Part: XHB-4A-KL(R)  (hidden comment: T690300147000)
CONNECTOR 4PIN P 2.54MM 180° K; Value: 2.5mm; MFG: 金佳; CREATE_NAME: Nathan; DIP&SMD: DIP; SAP: T690300147000; Vendor Name: *; Vendor Code: *; Type: Connector; CREATE_TIME: 11-July-2018; Current: *
footprint CONN 4P PH=2.5mm XHB-4A-KL(R) (CONN 4P PH=2.5mm XHB-4A-KL(R) H7.2mm)
pins: 1, 2, 3, 4

## CONN 4P PH=3.96mm
designator J?, comment Current: 7A  (hidden comment: CCN396020-0104)
CONNECTOR 4 PIN 3.96mm WHITE; SAP: T690300030500; Vendor Name: 亿源电子有限公司; Vendor Code: 10009989; DIP&SMD: DIP; Value: 3.96mm; MFG: *; MFG Part: *; Type: Connector
footprint CONN 4P PH=3.96mm (CONN 4P PH=3.96mm  H10.9mm)
pins: 1, 2, 3, 4

## CONN 4P PH=3.96mm CI5204P1V00-LF ST
designator J?, comment T690300067500  (value not drawn)
4P 3.96MM DIP CI5204P1V00-LF K; MFG: 瀚荃; CREATE_NAME: Nathan; SAP: T690300067500; Vendor Name: *; Vendor Code: *; Type: Connector; CREATE_TIME: 03-Mar-2017; MFG Part: CI5204P1V00-LF; DIP&SMD: DIP
footprint CONN 4P PH=3.96MM CI5204P1V00-LF ST
pins: 1, 2, 3, 4

## CONN 4P PH=3.96mm JST B4P-VH
designator J?, comment Current: 10A  (hidden comment: T690300102400)
4 PIN 3.96mm G; MFG Part: B4P-VH(LF)(SN); MFG: JST; CREATE_NAME: Nathan; DIP&SMD: DIP; Value: 3.96mm; SAP: T690300102400; Vendor Name: *; Vendor Code: *; Type: Connector; CREATE_TIME: 08-Feb-2017
footprint CONN 4P PH=3.96mm JST B4P-VH (CONN 4P PH=3.96mm  H14.6mm)
pins: 1, 2, 3, 4

## CONN 4P PH=3.96mm RA VH-4AW-CS
designator J?, comment T690300164300  (value not drawn)
CONN 4P P3.96 M90 WHITE K; MFG Part: VH-4AW-CS; Value: 3.96mm; MFG: JINJIA; CREATE_NAME: Cherry; DIP&SMD: DIP; SAP: T690300164300; Vendor Name: *; Vendor Code: *; Type: Connector; CREATE_TIME: 2019-04-10; Current: *
footprint CONN 4P PH=3.96mm_VH-4AW-CS (VH-4AW-CS)
pins: 1, 2, 3, 4

## CONN 4P PH=3.96mm VH-4A-CS-HF
designator J?, comment Current: 5A  (hidden comment: T690300129900)
CONN POWER 4PIN 3.96MM FM180 L; MFG Part: VH-4A-CS-HF; MFG: JST; CREATE_NAME: Nathan; DIP&SMD: DIP; Value: 3.96mm; SAP: T690300129900; Vendor Name: *; Vendor Code: *; Type: Connector; CREATE_TIME: 01-Nov-2018
footprint CONN 4P PH=3.96mm_VH-4A-CS-HF (VH-4A-CS-HF)
pins: 1, 2, 3, 4

## CONN 5P PH=0.8MM SMT 90
designator J?, comment T690300144900  (value not drawn)
CONN 5PIN P0.8 M\90 CI1805M2HR0-NH L; Value: 2.5mm; MFG: CviLux; CREATE_NAME: Tom; DIP&SMD: SMD; SAP: T690300144900; MFG Part: CI1805M2HR0-NH; Vendor Name: *; Vendor Code: *; Type: Connector; Current: *; CREATE_TIME: 22-Jun-2018
footprint CONN 5P PH=0.8MM SMT 90
pins: 0, 1, 2, 3, 4, 5

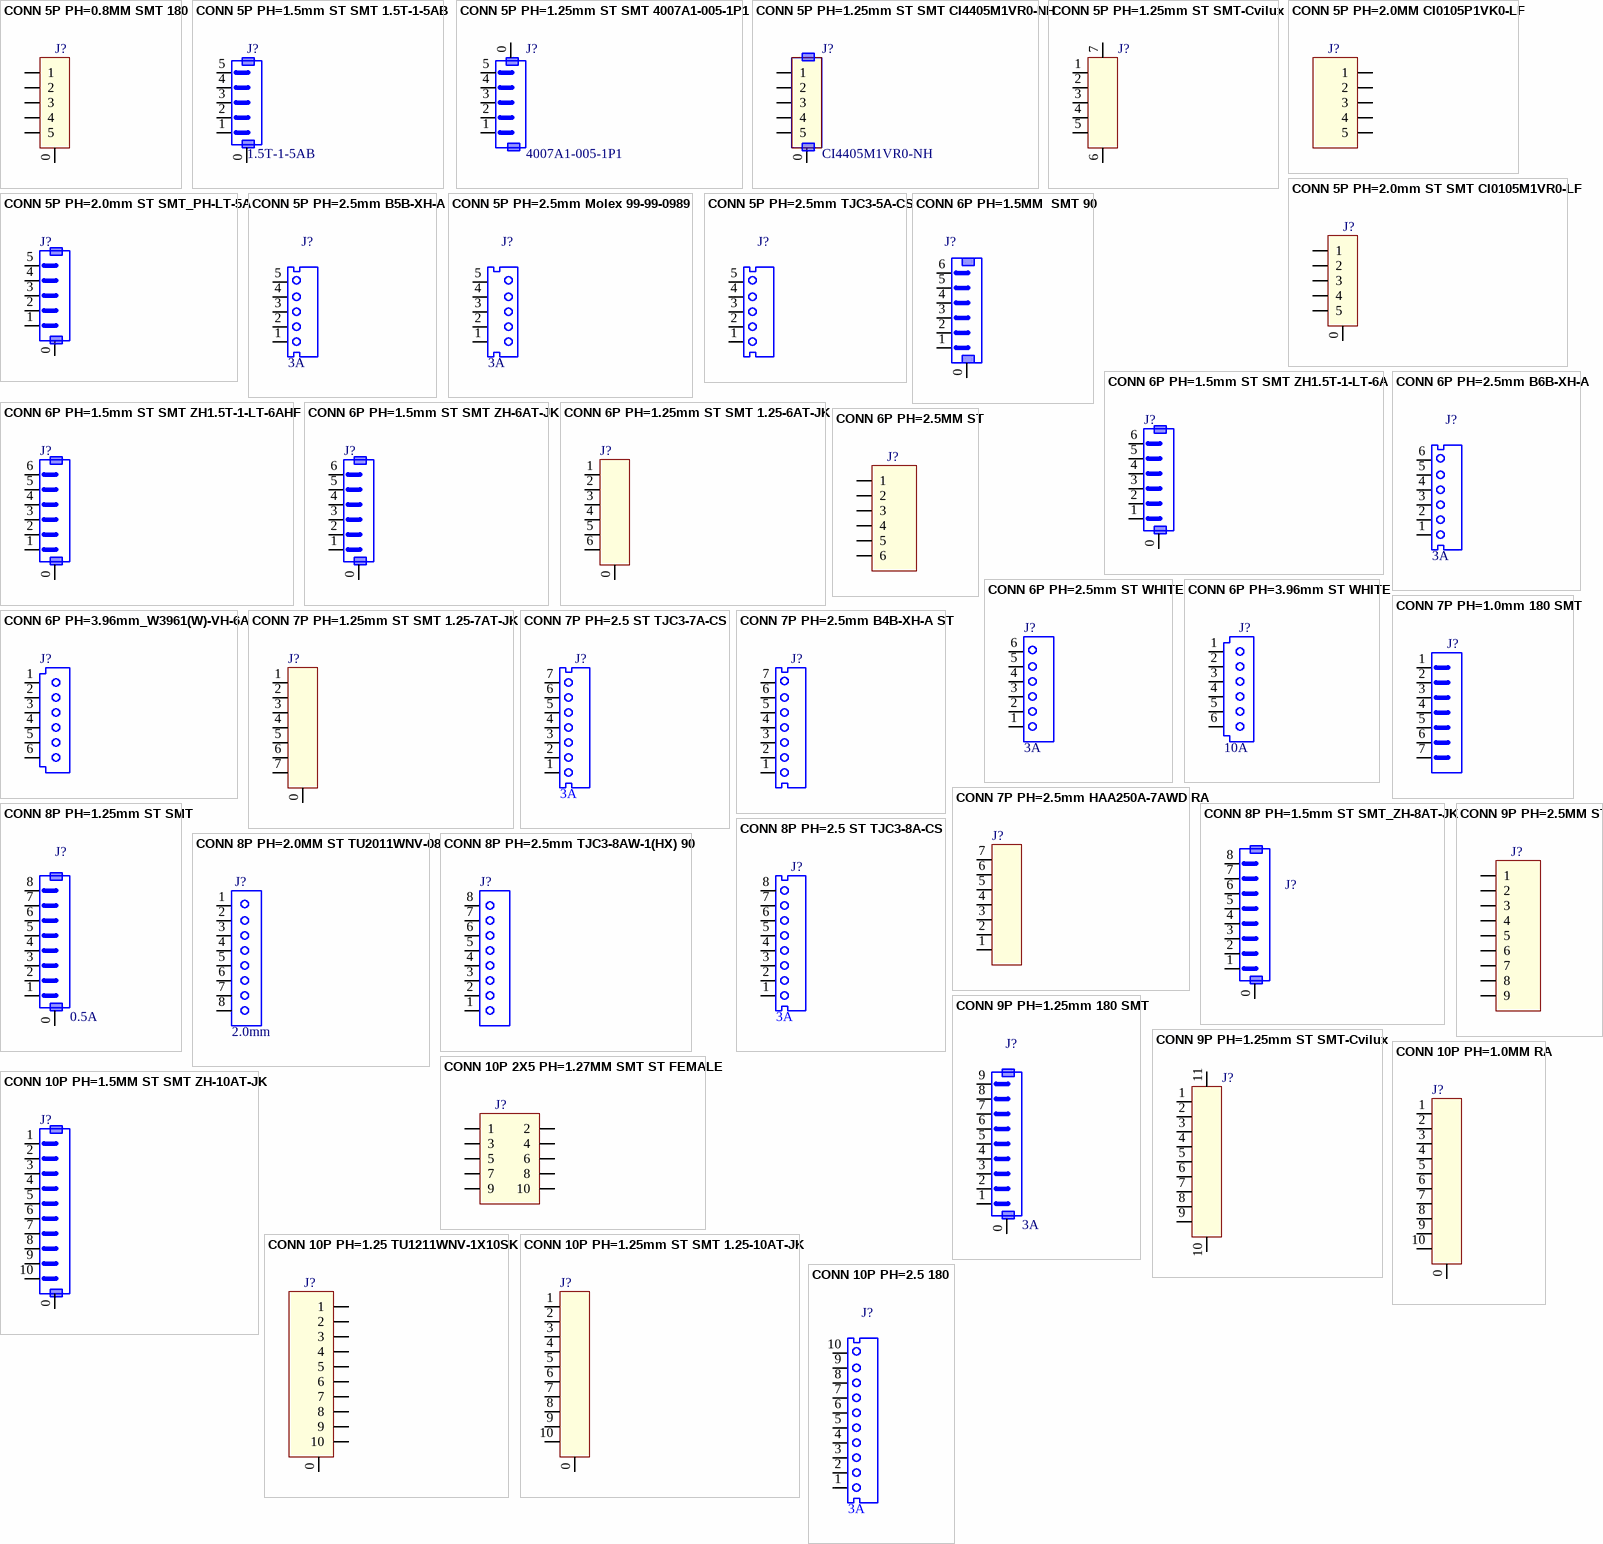
[diagram p2: symbols CONN 5P PH=0.8MM SMT 180 to CONN 10P PH=2.5 180]

## CONN 5P PH=0.8MM SMT 180
designator J?, comment T690300145000  (value not drawn)
CONN 5PIN P0.8 M\90 CI1805M2VR0-NH L; Value: 2.5mm; MFG: CviLux; CREATE_NAME: Tom; DIP&SMD: SMD; SAP: T690300145000; MFG Part: CI1805M2VR0-NH; Vendor Name: *; Vendor Code: *; Type: Connector; Current: *; CREATE_TIME: 22-Jun-2018
footprint CONN 5P PH=0.8MM SMT 180
pins: 0, 1, 2, 3, 4, 5

## CONN 5P PH=1.5mm ST SMT 1.5T-1-5AB
designator J?, comment MFG Part: 1.5T-1-5AB  (hidden comment: CNC150010-0705)
CHIP CONNECTOR 5PIN P:1.5MM 90 K; Value: 1.5mm; SAP: T690300018500; MFG: 金瑞康; CREATE_NAME: Tom@Deftronics; Current: 1.5A; DIP&SMD: SMD; Vendor Name: *; Vendor Code: *; Type: Connector; CREATE_TIME: 09-APR-2013
footprint CONN 5P PH=1.5mm ST SMT 1.5T-1-5AB (GP CHIP CONNECTOR 5P PH=1.5mm H5mm)
pins: 0, 1, 2, 3, 4, 5

## CONN 5P PH=1.25mm ST SMT 4007A1-005-1P1
designator J?, comment MFG Part: 4007A1-005-1P1  (hidden comment: T690300108000)
CHIP CONNECTOR 5PIN P:1.25MM 90 G; Value: 1.25mm; MFG: 金瑞康; CREATE_NAME: Nathan; Current: 1A; Voltage: 50V; DIP&SMD: SMD; SAP: T690300108000; Vendor Name: *; Vendor Code: *; Type: Connector; CREATE_TIME: 25-APR-2017
footprint CONN 5P PH=1.25mm ST SMT 4007A1-005-1P1 (GP CHIP CONNECTOR 5P PH=1.25mm H4.78mm)
pins: 0, 1, 2, 3, 4, 5

## CONN 5P PH=1.25mm ST SMT CI4405M1VR0-NH
designator J?, comment MFG Part: CI4405M1VR0-NH  (hidden comment: T690300060600)
CON\CI4405M_1.25MM_VL G; MFG: CviLux; CREATE_NAME: Nathan; DIP&SMD: SMD; Vendor Code: *; Vendor Name: *; TYPE: Connector; CREATE_TIME: 29-Aug-2017; SAP: T690300060600
footprint CONN 5P PH=1.25mm CI4405M1VR0-NH (1.25mm 5PIN STRAIGHT SMT TYPE HEADER)
pins: 0, 1, 2, 3, 4, 5

## CONN 5P PH=1.25mm ST SMT-Cvilux
designator J?, comment T690300060600  (value not drawn)
CON\CI4405M_1.25MM_VL G; MFG Part: CI4405M1VR0-NH; MFG: 瀚荃; Value: 1.25mm; CREATE_NAME: Tom; DIP&SMD: SMD; SAP: T690300060600; Vendor Name: *; Vendor Code: *; Tolerance: *; Type: Connector; CREATE_TIME: 25-Feb-2016
footprint CONN 5P PH=1.25mm ST SMT-Cvilux
pins: 1, 2, 3, 4, 5, 6, 7

## CONN 5P PH=2.0MM CI0105P1VK0-LF
designator J?, comment T690300106600  (value not drawn)
CONN 5PIN P2.0 M\90 CI0105P1VK0-LF K; MFG: CviLUX; CREATE_NAME: Tom; Value: 2.0mm; DIP&SMD: DIP; SAP: T690300106600; MFG Part: CI0105P1VK0-LF; Type: Connector; CREATE_TIME: 27-Dec-2016
footprint CONN 5P PH=2.0MM CI0105P1VK0-LF
pins: 1, 2, 3, 4, 5

## CONN 5P PH=2.0mm ST SMT CI0105M1VR0-LF
designator J?, comment T690300111100  (value not drawn)
CONNECTOR 5PIN P:2.0MM 90 CVILUX G; MFG Part: CI0105M1VR0-LF; Value: 2.0mm; CREATE_NAME: Nathan; DIP&SMD: SMD; SAP: T690300111100; Vendor Name: *; Vendor Code: *; MFG: Cvilux; Tolerance: *; Type: Connector; CREATE_TIME: 02-June-2017
footprint CONN 5P PH=2.0mm ST SMT CI0105M1VR0-LF (CONN 5P PH=2.0mm ST SMT)
pins: 0, 1, 2, 3, 4, 5

## CONN 5P PH=2.0mm ST SMT_PH-LT-5A
designator J?, comment T690300140800  (value not drawn)
CONNECTOR 5P 2MM SMD90 PH-LT-5A K; Value: 2.0mm; MFG: JRConn; CREATE_NAME: Nathan; DIP&SMD: SMD; SAP: T690300140800; MFG Part: PH-LT-5A; Vendor Name: *; Vendor Code: *; Type: Connector; CREATE_TIME: 26-APR-2018; Current: *; Customer Specific: N/A
footprint CONN 5P PH=2.0mm ST SMT_PH-LT-5A
pins: 0, 1, 2, 3, 4, 5

## CONN 5P PH=2.5mm B5B-XH-A
designator J?, comment Current: 3A  (hidden comment: CCN250000-0105)
CONNECTOR B5B-XH-A 5 PIN; Value: 2.5mm; SAP: T690300029100; Vendor Name: 深圳市利民丰电子有限公司; Vendor Code: 10020373; DIP&SMD: DIP; MFG: *; MFG Part: *; Type: Connector
footprint CONN 5P PH=2.5mm B5B-XH-A (CONN 5P PH=2.5mm B5B-XH-A H7mm)
pins: 1, 2, 3, 4, 5

## CONN 5P PH=2.5mm Molex 99-99-0989
designator J?, comment Current: 3A  (hidden comment: CCN250001-0105)
CONNECTOR 5PIN P=2.5mm 180'; Value: 2.5mm; SAP: T690300024200; MFG: Molex; CREATE_NAME: Nathan; DIP&SMD: DIP; MFG Part: 99-99-0989; Vendor Name: *; Vendor Code: *; Type: Connector; CREATE_TIME: 10-Feb-2015
footprint CONN 5P PH=2.5mm Molex 99-99-0989
pins: 1, 2, 3, 4, 5

## CONN 5P PH=2.5mm TJC3-5A-CS
designator J?, comment T690300112400  (value not drawn)
CONNECTOR 5PIN P:2.5MM WHITE M180 K; MFG Part: TJC3-5A-CS; Value: 2.5mm; MFG: JIN JIA; CREATE_NAME: Nathan; DIP&SMD: DIP; SAP: T690300112400; Vendor Name: *; Vendor Code: *; Type: Connector; Current: *; CREATE_TIME: 18-July-2017
footprint CONN 5P PH=2.5mm TJC3-5A-CS
pins: 1, 2, 3, 4, 5

## CONN 6P PH=1.5MM  SMT 90
designator J?, comment CNC150010-0106  (value not drawn)
CNC150010-0106  CHIP CONNECTOR 6PIN P=1.5mm 180'单排镀镍; CREATE_NAME: TOM@Deftronics; SAP: T690300018000; MFG: 金科基; DIP&SMD: SMD; CREATE_TIME: 10-Nov-2013; MFG Part: *; Vendor Name: *; Vendor code: *; Type: *; Package: *; CURRENT: *
footprint CONN 6P PH=1.5MM  SMT 90 (CHIP CONNECTOR 6PIN P=1.5mm 180'单排镀镍)
pins: 0, 1, 2, 3, 4, 5, 6

## CONN 6P PH=1.5mm ST SMT ZH1.5T-1-LT-6A
designator J?, comment T690300081500  (value not drawn)
CHIP CONNECTOR 6P P:1.5MM 90  BRASS K; MFG Part: ZH1.5T-1-LT-6A; Value: 1.5mm; MFG: JRC; CREATE_NAME: Nathan; DIP&SMD: SMD; SAP: T690300081500; Vendor Name: *; Vendor Code: *; Type: Connector; CREATE_TIME: 26-Mar-2021; Current: *
footprint CONN 6P PH=1.5mm ST SMT ZH1.5T-1-LT-6A (GP CHIP CONNECTOR 6P PH=1.5mm H5mm)
pins: 0, 1, 2, 3, 4, 5, 6

## CONN 6P PH=1.5mm ST SMT ZH1.5T-1-LT-6AHF
designator J?, comment T690300136700  (value not drawn)
CONNECTOR 6PIN 1.5MM M90 JRC L; MFG Part: ZH1.5T-1-LT-6AHF; CREATE_NAME: Nathan; DIP&SMD: SMD; Value: 1.5mm; SAP: T690300136700; MFG: JRC; Vendor Name: *; Vendor Code: *; Type: Connector; CREATE_TIME: 28-Mar-2018; Current: *
footprint CONN 6P PH=1.5mm ST SMT ZH1.5T-1-LT-6AHF (GP CHIP CONNECTOR 6P PH=1.5mm H5mm)
pins: 0, 1, 2, 3, 4, 5, 6

## CONN 6P PH=1.5mm ST SMT ZH-6AT-JK
designator J?, comment T690300087900  (value not drawn)
CHIP CONNECTOR 6PIN P:1.5MM 90 G; MFG Part: ZH-6AT-JK; Value: 1.5mm; MFG: 金佳; CREATE_NAME: Nathan; DIP&SMD: SMD; SAP: T690300087900; Vendor Name: *; Vendor Code: *; Type: Connector; CREATE_TIME: 20-OCT-2016; Current: *
footprint CONN 6P PH=1.5mm ST SMT ZH-6AT-JK (GP CHIP CONNECTOR 6P PH=1.5mm H5mm)
pins: 0, 1, 2, 3, 4, 5, 6

## CONN 6P PH=1.25mm ST SMT 1.25-6AT-JK
designator J?, comment T690300152200  (value not drawn)
CONN 6PIN P1.25 1.25-6AT-JK K; MFG: JIN JIA; CREATE_NAME: Nathan; Value: 1.25mm; DIP&SMD: SMD; SAP: T690300152200; MFG Part: 1.25-6AT-JK; Vendor Name: *; Vendor code: *; Type: Connector; Package: *; CURRENT: *; CREATE_TIME: 13-Sep-2018
footprint CONN 6P PH=1.25mm ST SMT 1.25-6AT-JK (GP CHIP CONNECTOR 6P PH=1.25mm H4.7mm)
pins: 0, 1, 2, 3, 4, 5, 6

## CONN 6P PH=2.5mm B6B-XH-A
designator J?, comment Current: 3A  (hidden comment: CCN250000-0106)
GP CONNECTOR B6B-XH-A 6 PIN; Value: 2.5mm; SAP: T690300041300; Vendor Name: 亿源电子有限公司; Vendor Code: 10009989; DIP&SMD: DIP; MFG: *; MFG Part: *; Type: Connector
footprint CONN 6P PH=2.5mm B6B-XH-A (CONN 6P PH=2.5mm B6B-XH-A H7mm)
pins: 1, 2, 3, 4, 5, 6

## CONN 6P PH=2.5MM ST
designator J?, comment T690300097400  (value not drawn)
CONNECTOR TJC3-6A-CS 6 PIN G; Value: 2.5mm; MFG: 金佳电子; CREATE_NAME: Tom; DIP&SMD: DIP; SAP: T690300097400; MFG Part: TJC3-6A-CS; Vendor Name: *; Vendor Code: *; Type: Connector; Current: *; CREATE_TIME: 27-Dec-2016
footprint CONN 6P PH=2.5MM ST
pins: 1, 2, 3, 4, 5, 6

## CONN 6P PH=2.5mm ST WHITE
designator J?, comment Current: 3A  (hidden comment: T690300053800)
CONNECTOR 6 PIN PITCH:2.50MM 180 WHITE G; Value: 2.5mm; MFG: 金科基; CREATE_NAME: Tom; DIP&SMD: DIP; SAP: T690300053800; MFG Part: *; Vendor Name: *; Vendor Code: *; Type: Connector; CREATE_TIME: 29-Oct-2015
footprint CONN 6P PH=2.5mm ST WHITE
pins: 1, 2, 3, 4, 5, 6

## CONN 6P PH=3.96mm ST WHITE
designator J?, comment Current: 10A  (hidden comment: T690300049700)
CONNECTOR 6 PIN PITCH:3.96MM 180 white G; MFG Part: HAY396A-6Y; Value: 3.96mm; MFG: 金科基; CREATE_NAME: Nathan; DIP&SMD: DIP; SAP: T690300049700; Vendor Name: *; Vendor Code: *; CREATE_TIME: 23-July-2015; Type: Connector
footprint CONN 6P PH=3.96mm ST WHITE (CONN 6P PH=3.96mm  H10.1mm)
pins: 1, 2, 3, 4, 5, 6

## CONN 6P PH=3.96mm_W3961(W)-VH-6A
designator J?, comment T690300145700  (value not drawn)
CONN 6P P3.96 M\180 W3961(W)-VH-6A (W) K; Value: 3.96mm; MFG: JIATAICHEN; CREATE_NAME: Tom; DIP&SMD: DIP; SAP: T690300145700; MFG Part: W3961(W)-VH-6A; CREATE_TIME: 02-Jul-2018; Type: Connector; Current: *
footprint CONN 6P PH=3.96mm_W3961(W)-VH-6A (W3961(W)-VH-6A)
pins: 1, 2, 3, 4, 5, 6

## CONN 7P PH=1.0mm 180 SMT
designator J?, comment CNC100010-0507  (value not drawn)
CHIP FPC CONNECTOR 7P P=1.0mm  90'单排镀镍; MFG Part: 1.0T-16-7AB-2; SAP: T690300021100; MFG: 金科基; CREATE_NAME: TOM@Deftronics; DIP&SMD: SMD; Remark: Update the pcb footprint on 05-June-2018; Vendor Name: *; Vendor Code: *; Type: Connector; CREATE_TIME: 15-Aug-2013
footprint CONN 7P PH=1.0mm ST SMT 1.0T-16-7PB-2 (CHIP CONNECTOR 7P P=1.0mm 180'单排镀镍)
pins: 1, 2, 3, 4, 5, 6, 7

## CONN 7P PH=1.25mm ST SMT 1.25-7AT-JK
designator J?, comment T690300127800  (value not drawn)
CHIP CONNECTOR 7PIN P:1.25MM 90 K; MFG Part: 1.25-7AT-JK; MFG: JIN JIA; CREATE_NAME: Nathan; Value: 1.25mm; DIP&SMD: SMD; SAP: T690300127800; Vendor Name: *; Vendor code: *; Type: Connector; Package: *; CURRENT: *; CREATE_TIME: 19-Dec-2017
footprint CONN 7P PH=1.25mm ST SMT 1.25-7AT-JK (GP CHIP CONNECTOR 7P PH=1.25mm H4.7mm)
pins: 0, 1, 2, 3, 4, 5, 6, 7

## CONN 7P PH=2.5 ST TJC3-7A-CS
designator J?, comment Current: 3A  (hidden comment: T690300119900)
CONN 7PIN P2.5 M\90 TJC3-7A-CS K; Value: 2.5mm; MFG: JINJIA; CREATE_NAME: Nathan; DIP&SMD: DIP; SAP: T690300119900; MFG Part: TJC3-7A-CS; Vendor Name: *; Vendor Code: *; Type: Connector; CREATE_TIME: 22-Sep-2017
footprint CONN 7P PH=2.5 ST TJC3-7A-CS (GP CONNECTOR 7PIN P=2.5)
pins: 1, 2, 3, 4, 5, 6, 7

## CONN 7P PH=2.5mm B4B-XH-A ST
designator J?, comment CCN250000-0107  (value not drawn)
GP CONNECTOR B4B-XH-A 7 PIN G; SAP: T690300029200; MFG: 金瑞康; CREATE_NAME: Nathan; DIP&SMD: DIP; Vendor Name: *; Vendor Code: *; Type: Connector; CREATE_TIME: 24-Sep-2014; MFG Part: B4B-XH-A
footprint CONN 7P PH=2.5MM ST WAFER (WAFER 7PIN P=2.5mm 90' 单排)
pins: 1, 2, 3, 4, 5, 6, 7

## CONN 7P PH=2.5mm HAA250A-7AWD RA
designator J?, comment T690300060300  (value not drawn)
CONNECTOR 7PIN P=2.5 WHITE 90 HAA250A- G; MFG Part: HAA250A-7AWD; MFG: RICHER INDUSTRIAL; CREATE_NAME: Tom; DIP&SMD: DIP; SAP: T690300060300; Vendor Name: *; Vendor Code: *; Type: Connector; CREATE_TIME: 03-Mar-2016
footprint CONN 7P PH=2.5mm HAA250A-7AWD RA (CONNECTOR 11PIN P=2.5 White 90')
pins: 1, 2, 3, 4, 5, 6, 7

## CONN 8P PH=1.5mm ST SMT_ZH-8AT-JK
designator J?, comment T690300162000  (value not drawn)
SMT CONNECTOR 8PIN P:1.5MM 90 K; MFG Part: ZH-8AT-JK; Value: 1.5mm; MFG: 金佳; CREATE_NAME: Nathan; DIP&SMD: SMD; SAP: T690300162000; Vendor Name: *; Vendor Code: *; Type: Connector; CREATE_TIME: 14-Nov-2018; Current: *; Customer Specific: N/A
footprint CONN 8P PH=1.5mm ST SMT_ZH-8AT-JK (GP CHIP CONNECTOR 8P PH=1.5mm H5mm)
pins: 0, 1, 2, 3, 4, 5, 6, 7, 8

## CONN 8P PH=1.25mm ST SMT
designator J?, comment value 0.5A  (hidden comment: CNC125010-0508)
CHIP CONNECTOR 8P P=1.25mm 90'单排镀镍; SAP: T690300017600; MFG: 利民丰; CREATE_NAME: Nathan; DIP&SMD: SMD; MFG Part: *; Vendor Name: *; Vendor Code: *; Type: Connector; CREATE_TIME: 26-Sep-2014
footprint CONN 8P PH=1.25mm ST SMT (GP CHIP CONNECTOR 8P PH=1.25mm H5.4mm)
pins: 0, 1, 2, 3, 4, 5, 6, 7, 8

## CONN 8P PH=2.0MM ST TU2011WNV-08
designator J?, comment value 2.0mm  (hidden comment: T690300078200)
CONNECTOR 8P 2.0MM TU2011WNV-08 3A K; MFG: TARNG YU; CREATE_NAME: Nathan; DIP&SMD: DIP; SAP: T690300078200; Vendor Name: *; Vendor Code: *; CREATE_TIME: 18-Jan-2018; MFG Part: TU2011WNV-08; Type: Connector; Current: *
footprint CONN 8P PH=2.0MM ST TU2011WNV-08 (Wire To Board PH2.0mm Vertical DIP Type)
pins: 1, 2, 3, 4, 5, 6, 7, 8

## CONN 8P PH=2.5 ST TJC3-8A-CS
designator J?, comment Current: 3A  (hidden comment: T690300135100)
CONN 8PIN P2.5 M\180 TJC3-8A-CS K; Value: 2.5mm; MFG: JINJIA; CREATE_NAME: Nathan; DIP&SMD: DIP; SAP: T690300135100; MFG Part: TJC3-8A-CS; Vendor Name: *; Vendor Code: *; Type: Connector; CREATE_TIME: 21-Mar-2018
footprint CONN 8P PH=2.5 ST TJC3-8A-CS (GP CONNECTOR 8PIN P=2.5)
pins: 1, 2, 3, 4, 5, 6, 7, 8

## CONN 8P PH=2.5mm TJC3-8AW-1(HX) 90
designator J?, comment T690300070600  (value not drawn)
CONNECTER 8PIN P=2.54MM 90° G; MFG Part: TJC3-8AW; MFG: 金佳; CREATE_NAME: Tom; DIP&SMD: DIP; SAP: T690300070600; Vendor Name: *; Vendor Code: *; Type: Connector; CREATE_TIME: 11-Jan-2016
footprint CONN 8P PH=2.5mm TJC3-8AW-1(HX) 90
pins: 1, 2, 3, 4, 5, 6, 7, 8

## CONN 9P PH=1.25mm 180 SMT
designator J?, comment Current: 3A  (hidden comment: CNC125010-0509)
CHIP CONNECTOR 9P P=1.25mm 90’; Value: 1.25mm; SAP: T690300017700; MFG: 利民丰; CREATE_NAME: GordonL@Deftronics; DIP&SMD: SMD; MFG Part: *; Vendor Name: *; Vendor Code: *; Type: Connector; CREATE_TIME: 27-MAR-2013
footprint CONN 9P PH=1.25mm 180 SMT (GP CHIP CONNECTOR 9P PH=1.25mm H5.4mm)
pins: 0, 1, 2, 3, 4, 5, 6, 7, 8, 9

## CONN 9P PH=1.25mm ST SMT-Cvilux
designator J?, comment T690300057800  (value not drawn)
WTB CONN. 1.25MM 9PIN CI4409M1VR0-NH C L; MFG: Cvilux; CREATE_NAME: Tom; DIP&SMD: SMD; SAP: T690300057800; Vendor Name: *; Vendor Code: *; MFG Part: CI4409M1VR0-NH; Value: 1.25mm; Tolerance: *; Type: Connector; CREATE_TIME: 25-Feb-2016
footprint CONN 9P PH=1.25mm ST SMT-Cvilux
pins: 1, 2, 3, 4, 5, 6, 7, 8, 9, 10, 11

## CONN 9P PH=2.5MM ST
designator J?, comment T690300097700  (value not drawn)
CONNECTOR TJC3-9A-CS 9 PIN G; Value: 2.5mm; MFG: 金佳电子; CREATE_NAME: Tom; DIP&SMD: DIP; SAP: T690300097700; MFG Part: TJC3-9A-CS; Vendor Name: *; Vendor Code: *; Type: Connector; Current: *; CREATE_TIME: 27-Dec-2016
footprint CONN 9P PH=2.5MM ST
pins: 1, 2, 3, 4, 5, 6, 7, 8, 9

## CONN 10P 2X5 PH=1.27MM SMT ST FEMALE
designator J?, comment T690300079600  (value not drawn)
CONN SMT 2*5PIN 1.27Y-2X5SW-3.6 90 G; MFG: 金佳; CREATE_NAME: Tom; DIP&SMD: SMD; SAP: T690300079600; PACKAGE: *; Vendor Name: *; Vendor Code: *; MFG Part: 1.27Y-2X5SW-3.6; Remark: *; Tolerance: *; Type: Connector; CREATE_TIME: 23-May-2016
footprint CONN 10P 2X5 PH=1.27MM Female
pins: 1, 2, 3, 4, 5, 6, 7, 8, 9, 10

## CONN 10P PH=1.0MM RA
designator J?
CONNECTOR 10 PIN PITCH:1.0MM 180 G; MFG Part: 1.0S-4X-10PWT-4; SAP: T690300075200; MFG: 金佳电子; Value: 1mm; CREATE_NAME: Tom; DIP&SMD: SMD; Vendor Name: *; Vendor Code: *; Tolerance: *; Type: Connector; CREATE_TIME: 28-Mar-2016
footprint CONN 10P PH=1.0MM RA
pins: 0, 1, 2, 3, 4, 5, 6, 7, 8, 9, 10

## CONN 10P PH=1.5MM ST SMT ZH-10AT-JK
designator J?, comment T690300109200  (value not drawn)
SMT CONNECTOR 10PIN 1.5MM 90° K; MFG Part: ZH-10AT-JK; CREATE_NAME: Nathan; MFG: JINJIA; CURRENT: 1A; DIP&SMD: SMD; CREATE_TIME: 12-Sep-2017; SAP: T690300109200; Vendor Name: *; Vendor code: *; Type: *; Package: *
footprint CONN 10P PH=1.5mm ST SMT ZH-10AT-JK (CHIP CONNECTOR 10PIN P=1.5mm 90'单排镀锡)
pins: 0, 1, 2, 3, 4, 5, 6, 7, 8, 9, 10

## CONN 10P PH=1.25 TU1211WNV-1X10SK
designator J?, comment T690300108900  (value not drawn)
PA CONN TU1211WNV 10P 1.25 ST SMT G; MFG Part: TU1211WNV-1X10SK-X-X-NL-M-A; MFG: TARNG YU; CREATE_NAME: Nathan; Value: 1.25mm; DIP&SMD: SMD; SAP: T690300108900; Type: Connector; CREATE_TIME: 10-May-2017
footprint CONN 10P PH=1.25 TU1211WNV-1x10SK
pins: 0, 1, 2, 3, 4, 5, 6, 7, 8, 9, 10

## CONN 10P PH=1.25mm ST SMT 1.25-10AT-JK
designator J?, comment T690300112700  (value not drawn)
CONNECTOR 10PIN P:1.25MM SMD WHITE M90 K; MFG Part: 1.25-10AT-JK; MFG: JIN JIA; CREATE_NAME: Nathan; Value: 1.25mm; SAP: T690300112700; Vendor Name: *; Vendor code: *; Type: Connector; Package: *; CURRENT: *; CREATE_TIME: 13-July-2017; DIP&SMD: SMD
footprint CONN 10P PH=1.25mm ST SMT 1.25-10AT-JK (GP CHIP CONNECTOR 10P PH=1.25mm H4.7mm)
pins: 0, 1, 2, 3, 4, 5, 6, 7, 8, 9, 10

## CONN 10P PH=2.5 180
designator J?, comment Current: 3A  (hidden comment: CCN254000-0110)
GP CONNECTOR 10PIN P=2.5; Value: 2.5mm; SAP: T690300003600; MFG: 建威; CREATE_NAME: Kai Ma@Deftronics; DIP&SMD: DIP; MFG Part: *; Vendor Name: *; Vendor Code: *; Type: Connector; CREATE_TIME: 28-Nov-2013
footprint CONN 10P PH=2.5 180 (GP CONNECTOR 10PIN P=2.5)
pins: 1, 2, 3, 4, 5, 6, 7, 8, 9, 10

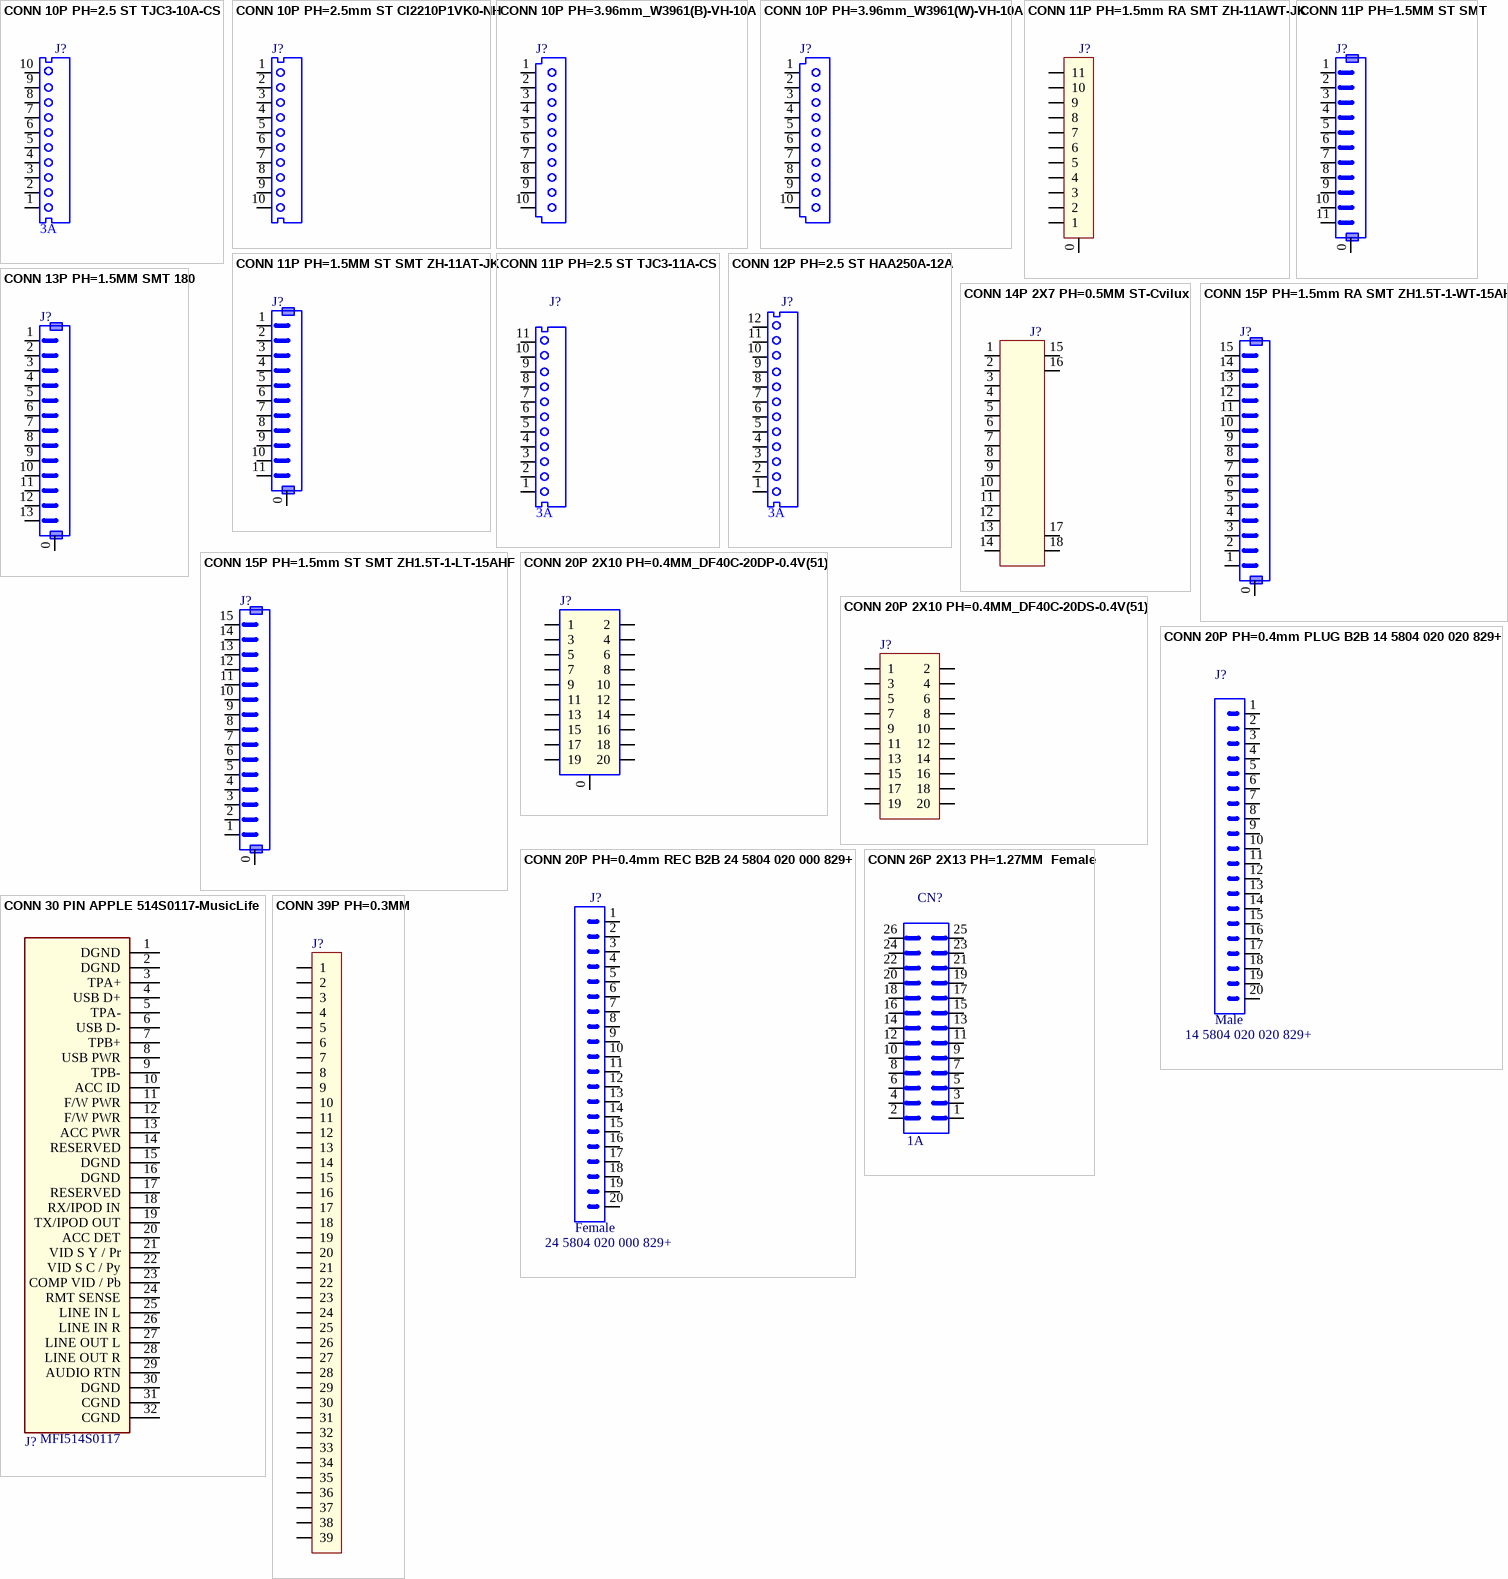
[diagram p3: symbols CONN 10P PH=2.5 ST TJC3-10A-CS to CONN 39P PH=0.3MM]

## CONN 10P PH=2.5 ST TJC3-10A-CS
designator J?, comment Current: 3A  (hidden comment: T690300163300)
CONN 10PIN P2.5 M\180 TJC3-10A-CS K; Value: 2.5mm; MFG: JINJIA; CREATE_NAME: Nathan; DIP&SMD: DIP; SAP: T690300163300; MFG Part: TJC3-10A-CS; Vendor Name: *; Vendor Code: *; Type: Connector; CREATE_TIME: 19-Mar-2019
footprint CONN 10P PH=2.5 ST TJC3-10A-CS (GP CONNECTOR 10PIN P=2.5)
pins: 1, 2, 3, 4, 5, 6, 7, 8, 9, 10

## CONN 10P PH=2.5mm ST CI2210P1VK0-NH
designator J?, comment T690300105400  (value not drawn)
WTB CONN. 2.5MM 10PIN CI2210P1VK0-NH CV G; MFG: CVILUX; CREATE_NAME: Nathan; DIP&SMD: DIP; Value: 2.5mm; SAP: T690300105400; MFG Part: CI2210P1VK0-NH; Vendor Name: *; Vendor Code: *; Type: Connector; CREATE_TIME: 21-Mar-2017; Current: *
footprint CONN 10P PH=2.5mm ST CI2210P1VK0-NH (CONN 10P PH=2.5mm CI2210P1VK0-NH H7mm)
pins: 1, 2, 3, 4, 5, 6, 7, 8, 9, 10

## CONN 10P PH=3.96mm_W3961(B)-VH-10A
designator J?, comment T690300151400  (value not drawn)
CONN 10P P3.96 M\180 W3961(B)-VH-10A ( K; Value: 3.96mm; MFG: JIATAICHEN; CREATE_NAME: Nathan; DIP&SMD: DIP; SAP: T690300151400; MFG Part: W3961(B)-VH-10A; CREATE_TIME: 13-Sep-2018; Type: Connector; Current: *
footprint CONN 10P PH=3.96mm_W3961(B)-VH-10A (W3961(B)-VH-10A)
pins: 1, 2, 3, 4, 5, 6, 7, 8, 9, 10

## CONN 10P PH=3.96mm_W3961(W)-VH-10A
designator J?, comment T690300145500  (value not drawn)
CONN 10P P3.96 M\180 W3961(W)-VH-10A ( K; Value: 3.96mm; MFG: JIATAICHEN; CREATE_NAME: Tom; DIP&SMD: DIP; SAP: T690300145500; MFG Part: W3961(W)-VH-10A; CREATE_TIME: 02-Jul-2018; Type: Connector; Current: *
footprint CONN 10P PH=3.96mm_W3961(W)-VH-10A (W3961(W)-VH-10A)
pins: 1, 2, 3, 4, 5, 6, 7, 8, 9, 10

## CONN 11P PH=1.5mm RA SMT ZH-11AWT-JK
designator J?, comment T690300165100  (value not drawn)
CONNECTOR 11PIN P:1.5 180 H:3.7 K; MFG Part: ZH-11AWT-JK; Value: 1.5mm; MFG: JINJIA; CREATE_NAME: Nathan; DIP&SMD: SMD; SAP: T690300165100; Vendor Name: *; Vendor Code: *; Type: Connector; Current: *; CREATE_TIME: 11-Apr-2019
footprint CONN 11P PH=1.5mm RA SMT ZH-11AWT-JK (Connector 11 PIN PH=1.5mm JINJIA  ZH-11AWT-JK)
pins: 0, 1, 2, 3, 4, 5, 6, 7, 8, 9, 10, 11

## CONN 11P PH=1.5MM ST SMT
designator J?, comment T690300050200  (value not drawn)
SMT CONNECTOR 11PIN P=1.5MM 90 NICKEL G; MFG Part: 1.5T-1-11AB; CREATE_NAME: Nathan; MFG: 金科基; CURRENT: 1.5A; DIP&SMD: SMD; CREATE_TIME: 28-July-2015; SAP: T690300050200; Vendor Name: *; Vendor code: *; Type: *; Package: *
footprint CONN 11P PH=1.5MM ST SMT (SMT CONNECTOR 11PIN P=1.5mm 90'单排镀锡)
pins: 0, 1, 2, 3, 4, 5, 6, 7, 8, 9, 10, 11